# Altium integrated library Atmel AT6000.IntLib: 80 symbols (part 4 of 6)
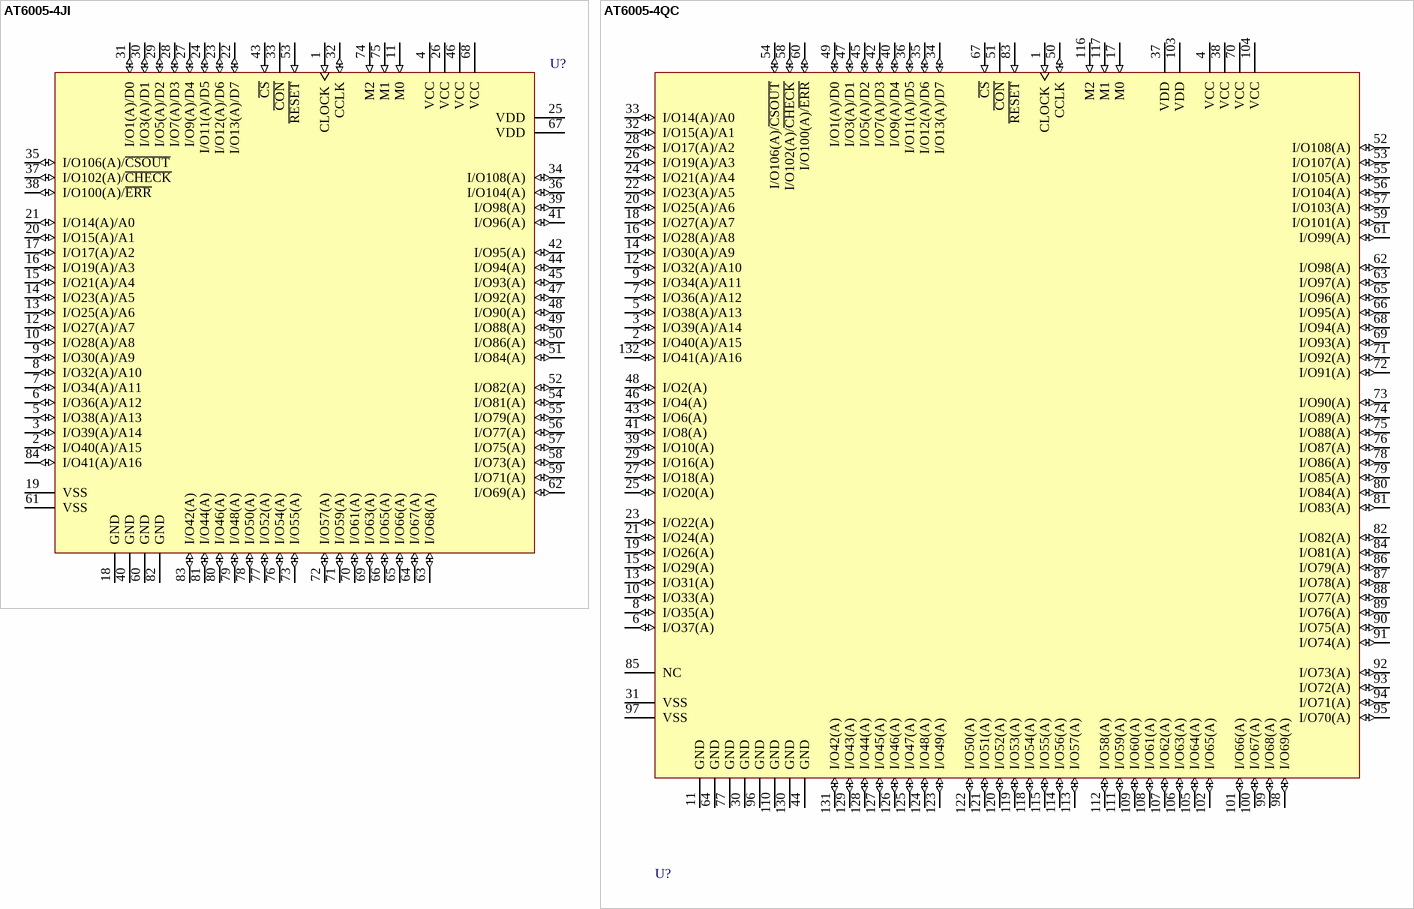
[diagram p53: symbols AT6005-4JI to AT6005-4QC]

## AT6005-4JI
designator U?
AT6005 5.0V FPGA, 64 User I/O Pins, 84-Lead PLCC, Speed Grade 4, Industrial Grade; Published: 24-Nov-2000; LatestRevisionDate: 13-Apr-2006; LatestRevisionNote: IPC-7351 Footprint Added.; DatasheetVersion: Rev. 0264F-10/99; PackageVersion: rev.B, Oct-2001; PackageReference: 84J; Publisher: Altium Limited; PackageDescription: 84J, 84-lead, Plastic J-leaded Chip Carrier (PLCC); Code_JEDEC: MS-018-AF; Code_IPC: PLCC-84; ComponentLink1Description: Manufacturer Link; ComponentLink1URL: http://www.atmel.com/products/FPGA/; ComponentLink2Description: Datasheet; ComponentLink2URL: http://www.atmel.com/dyn/resources/prod_documents/DOC0264.PDF
footprint 84J_N (Leaded Chip Carrier, 84-Leads, Body 29.3x29.3mm, Pitch 1.27mm, IPC Medium Density)
footprint 84J_L (Leaded Chip Carrier, 84-Leads, Body 29.3x29.3mm, Pitch 1.27mm, IPC High Density)
footprint 84J_M (Leaded Chip Carrier, 84-Leads, Body 29.3x29.3mm, Pitch 1.27mm, IPC Low Density)
3D model AT6005-84J (84J, 84-lead, Plastic J-leaded Chip Carrier (PLCC))
pins: 1 CLOCK (in), 2 I/O40(A)/A15 (io), 3 I/O39(A)/A14 (io), 4 VCC (power), 5 I/O38(A)/A13 (io), 6 I/O36(A)/A12 (io), 7 I/O34(A)/A11 (io), 8 I/O32(A)/A10 (io), 9 I/O30(A)/A9 (io), 10 I/O28(A)/A8 (io), 11 M0 (in), 12 I/O27(A)/A7 (io), 13 I/O25(A)/A6 (io), 14 I/O23(A)/A5 (io), 15 I/O21(A)/A4 (io), 16 I/O19(A)/A3 (io), 17 I/O17(A)/A2 (io), 18 GND (power), 19 VSS (power), 20 I/O15(A)/A1 (io), 21 I/O14(A)/A0 (io), 22 I/O13(A)/D7 (io), 23 I/O12(A)/D6 (io), 24 I/O11(A)/D5 (io), 25 VDD (power), 26 VCC (power), 27 I/O9(A)/D4 (io), 28 I/O7(A)/D3 (io), 29 I/O5(A)/D2 (io), 30 I/O3(A)/D1 (io), 31 I/O1(A)/D0 (io), 32 CCLK (io), 33 ~{CON} (oc), 34 I/O108(A) (io), 35 I/O106(A)/~{CSOUT} (io), 36 I/O104(A) (io), 37 I/O102(A)/~{CHECK} (io), 38 I/O100(A)/~{ERR} (io), 39 I/O98(A) (io), 40 GND (power), 41 I/O96(A) (io), 42 I/O95(A) (io), 43 ~{CS} (in), 44 I/O94(A) (io), 45 I/O93(A) (io), 46 VCC (power), 47 I/O92(A) (io), 48 I/O90(A) (io), 49 I/O88(A) (io), 50 I/O86(A) (io), 51 I/O84(A) (io), 52 I/O82(A) (io), 53 ~{RESET} (in), 54 I/O81(A) (io), 55 I/O79(A) (io), 56 I/O77(A) (io), 57 I/O75(A) (io), 58 I/O73(A) (io), 59 I/O71(A) (io), 60 GND (power), 61 VSS (power), 62 I/O69(A) (io), 63 I/O68(A) (io), 64 I/O67(A) (io), 65 I/O66(A) (io), 66 I/O65(A) (io), 67 VDD (power), 68 VCC (power), 69 I/O63(A) (io), 70 I/O61(A) (io), 71 I/O59(A) (io), 72 I/O57(A) (io), 73 I/O55(A) (io), 74 M2 (in), 75 M1 (in), 76 I/O54(A) (io), 77 I/O52(A) (io), 78 I/O50(A) (io), 79 I/O48(A) (io), 80 I/O46(A) (io), 81 I/O44(A) (io), 82 GND (power), 83 I/O42(A) (io), 84 I/O41(A)/A16 (io)

## AT6005-4QC
designator U?
AT6005 5.0V FPGA, 108 User I/O Pins, 132-Lead BQFP, Speed Grade 4, Commercial Grade; Published: 24-Nov-2000; LatestRevisionDate: 17-Dec-2003; LatestRevisionNote: Schematic layout rearranged; DatasheetVersion: Rev. 0264F-10/99; PackageVersion: rev.0555D, Nov-1999; PackageReference: 132Q; Publisher: Altium Limited; PackageDescription: Bumpered PQFP; 132 Leads; Pitch 0.635 mm;; ComponentLink1Description: Manufacturer Link; ComponentLink1URL: http://www.atmel.com/products/FPGA/; ComponentLink2Description: Datasheet; ComponentLink2URL: http://www.atmel.com/dyn/resources/prod_documents/DOC0264.PDF
footprint 132Q (Bumpered PQFP; 132 Leads; Pitch 0.635 mm;)
pins: 1 CLOCK (in), 2 I/O40(A)/A15 (io), 3 I/O39(A)/A14 (io), 4 VCC (power), 5 I/O38(A)/A13 (io), 6 I/O37(A) (io), 7 I/O36(A)/A12 (io), 8 I/O35(A) (io), 9 I/O34(A)/A11 (io), 10 I/O33(A) (io), 11 GND (power), 12 I/O32(A)/A10 (io), 13 I/O31(A) (io), 14 I/O30(A)/A9 (io), 15 I/O29(A) (io), 16 I/O28(A)/A8 (io), 17 M0 (in), 18 I/O27(A)/A7 (io), 19 I/O26(A) (io), 20 I/O25(A)/A6 (io), 21 I/O24(A) (io), 22 I/O23(A)/A5 (io), 23 I/O22(A) (io), 24 I/O21(A)/A4 (io), 25 I/O20(A) (io), 26 I/O19(A)/A3 (io), 27 I/O18(A) (io), 28 I/O17(A)/A2 (io), 29 I/O16(A) (io), 30 GND (power), 31 VSS (power), 32 I/O15(A)/A1 (io), 33 I/O14(A)/A0 (io), 34 I/O13(A)/D7 (io), 35 I/O12(A)/D6 (io), 36 I/O11(A)/D5 (io), 37 VDD (power), 38 VCC (power), 39 I/O10(A) (io), 40 I/O9(A)/D4 (io), 41 I/O8(A) (io), 42 I/O7(A)/D3 (io), 43 I/O6(A) (io), 44 GND (power), 45 I/O5(A)/D2 (io), 46 I/O4(A) (io), 47 I/O3(A)/D1 (io), 48 I/O2(A) (io), 49 I/O1(A)/D0 (io), 50 CCLK (io), 51 ~{CON} (oc), 52 I/O108(A) (io), 53 I/O107(A) (io), 54 I/O106(A)/~{CSOUT} (io), 55 I/O105(A) (io), 56 I/O104(A) (io), 57 I/O103(A) (io), 58 I/O102(A)/~{CHECK} (io), 59 I/O101(A) (io), 60 I/O100(A)/~{ERR} (io), 61 I/O99(A) (io), 62 I/O98(A) (io), 63 I/O97(A) (io), 64 GND (power), 65 I/O96(A) (io), 66 I/O95(A) (io), 67 ~{CS} (in), 68 I/O94(A) (io), 69 I/O93(A) (io), 70 VCC (power), 71 I/O92(A) (io), 72 I/O91(A) (io), 73 I/O90(A) (io), 74 I/O89(A) (io), 75 I/O88(A) (io), 76 I/O87(A) (io), 77 GND (power), 78 I/O86(A) (io), 79 I/O85(A) (io), 80 I/O84(A) (io), 81 I/O83(A) (io), 82 I/O82(A) (io), 83 ~{RESET} (in), 84 I/O81(A) (io), 85 NC, 86 I/O79(A) (io), 87 I/O78(A) (io), 88 I/O77(A) (io), 89 I/O76(A) (io), 90 I/O75(A) (io), 91 I/O74(A) (io), 92 I/O73(A) (io), 93 I/O72(A) (io), 94 I/O71(A) (io), 95 I/O70(A) (io), 96 GND (power), 97 VSS (power), 98 I/O69(A) (io), 99 I/O68(A) (io), 100 I/O67(A) (io), 101 I/O66(A) (io), 102 I/O65(A) (io), 103 VDD (power), 104 VCC (power), 105 I/O64(A) (io), 106 I/O63(A) (io), 107 I/O62(A) (io), 108 I/O61(A) (io), 109 I/O60(A) (io), 110 GND (power), 111 I/O59(A) (io), 112 I/O58(A) (io), 113 I/O57(A) (io), 114 I/O56(A) (io), 115 I/O55(A) (io), 116 M2 (in), 117 M1 (in), 118 I/O54(A) (io), 119 I/O53(A) (io), 120 I/O52(A) (io), 121 I/O51(A) (io), 122 I/O50(A) (io), 123 I/O49(A) (io), 124 I/O48(A) (io), 125 I/O47(A) (io), 126 I/O46(A) (io), 127 I/O45(A) (io), 128 I/O44(A) (io), 129 I/O43(A) (io), 130 GND (power), 131 I/O42(A) (io), 132 I/O41(A)/A16 (io)

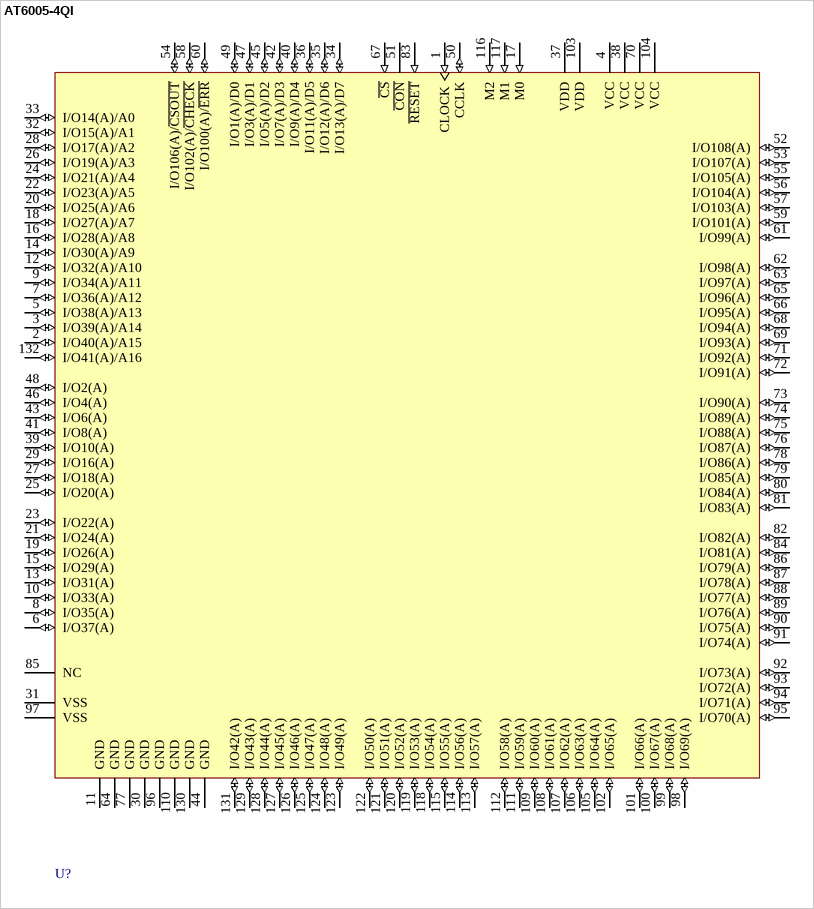
[diagram p24: symbol AT6005-4QI]

## AT6005-4QI
designator U?
AT6005 5.0V FPGA, 108 User I/O Pins, 132-Lead BQFP, Speed Grade 4, Industrial Grade; Published: 24-Nov-2000; LatestRevisionDate: 17-Dec-2003; LatestRevisionNote: Schematic layout rearranged; DatasheetVersion: Rev. 0264F-10/99; PackageVersion: rev.0555D, Nov-1999; PackageReference: 132Q; Publisher: Altium Limited; PackageDescription: Bumpered PQFP; 132 Leads; Pitch 0.635 mm;; ComponentLink1Description: Manufacturer Link; ComponentLink1URL: http://www.atmel.com/products/FPGA/; ComponentLink2Description: Datasheet; ComponentLink2URL: http://www.atmel.com/dyn/resources/prod_documents/DOC0264.PDF
footprint 132Q (Bumpered PQFP; 132 Leads; Pitch 0.635 mm;)
pins: 1 CLOCK (in), 2 I/O40(A)/A15 (io), 3 I/O39(A)/A14 (io), 4 VCC (power), 5 I/O38(A)/A13 (io), 6 I/O37(A) (io), 7 I/O36(A)/A12 (io), 8 I/O35(A) (io), 9 I/O34(A)/A11 (io), 10 I/O33(A) (io), 11 GND (power), 12 I/O32(A)/A10 (io), 13 I/O31(A) (io), 14 I/O30(A)/A9 (io), 15 I/O29(A) (io), 16 I/O28(A)/A8 (io), 17 M0 (in), 18 I/O27(A)/A7 (io), 19 I/O26(A) (io), 20 I/O25(A)/A6 (io), 21 I/O24(A) (io), 22 I/O23(A)/A5 (io), 23 I/O22(A) (io), 24 I/O21(A)/A4 (io), 25 I/O20(A) (io), 26 I/O19(A)/A3 (io), 27 I/O18(A) (io), 28 I/O17(A)/A2 (io), 29 I/O16(A) (io), 30 GND (power), 31 VSS (power), 32 I/O15(A)/A1 (io), 33 I/O14(A)/A0 (io), 34 I/O13(A)/D7 (io), 35 I/O12(A)/D6 (io), 36 I/O11(A)/D5 (io), 37 VDD (power), 38 VCC (power), 39 I/O10(A) (io), 40 I/O9(A)/D4 (io), 41 I/O8(A) (io), 42 I/O7(A)/D3 (io), 43 I/O6(A) (io), 44 GND (power), 45 I/O5(A)/D2 (io), 46 I/O4(A) (io), 47 I/O3(A)/D1 (io), 48 I/O2(A) (io), 49 I/O1(A)/D0 (io), 50 CCLK (io), 51 ~{CON} (oc), 52 I/O108(A) (io), 53 I/O107(A) (io), 54 I/O106(A)/~{CSOUT} (io), 55 I/O105(A) (io), 56 I/O104(A) (io), 57 I/O103(A) (io), 58 I/O102(A)/~{CHECK} (io), 59 I/O101(A) (io), 60 I/O100(A)/~{ERR} (io), 61 I/O99(A) (io), 62 I/O98(A) (io), 63 I/O97(A) (io), 64 GND (power), 65 I/O96(A) (io), 66 I/O95(A) (io), 67 ~{CS} (in), 68 I/O94(A) (io), 69 I/O93(A) (io), 70 VCC (power), 71 I/O92(A) (io), 72 I/O91(A) (io), 73 I/O90(A) (io), 74 I/O89(A) (io), 75 I/O88(A) (io), 76 I/O87(A) (io), 77 GND (power), 78 I/O86(A) (io), 79 I/O85(A) (io), 80 I/O84(A) (io), 81 I/O83(A) (io), 82 I/O82(A) (io), 83 ~{RESET} (in), 84 I/O81(A) (io), 85 NC, 86 I/O79(A) (io), 87 I/O78(A) (io), 88 I/O77(A) (io), 89 I/O76(A) (io), 90 I/O75(A) (io), 91 I/O74(A) (io), 92 I/O73(A) (io), 93 I/O72(A) (io), 94 I/O71(A) (io), 95 I/O70(A) (io), 96 GND (power), 97 VSS (power), 98 I/O69(A) (io), 99 I/O68(A) (io), 100 I/O67(A) (io), 101 I/O66(A) (io), 102 I/O65(A) (io), 103 VDD (power), 104 VCC (power), 105 I/O64(A) (io), 106 I/O63(A) (io), 107 I/O62(A) (io), 108 I/O61(A) (io), 109 I/O60(A) (io), 110 GND (power), 111 I/O59(A) (io), 112 I/O58(A) (io), 113 I/O57(A) (io), 114 I/O56(A) (io), 115 I/O55(A) (io), 116 M2 (in), 117 M1 (in), 118 I/O54(A) (io), 119 I/O53(A) (io), 120 I/O52(A) (io), 121 I/O51(A) (io), 122 I/O50(A) (io), 123 I/O49(A) (io), 124 I/O48(A) (io), 125 I/O47(A) (io), 126 I/O46(A) (io), 127 I/O45(A) (io), 128 I/O44(A) (io), 129 I/O43(A) (io), 130 GND (power), 131 I/O42(A) (io), 132 I/O41(A)/A16 (io)

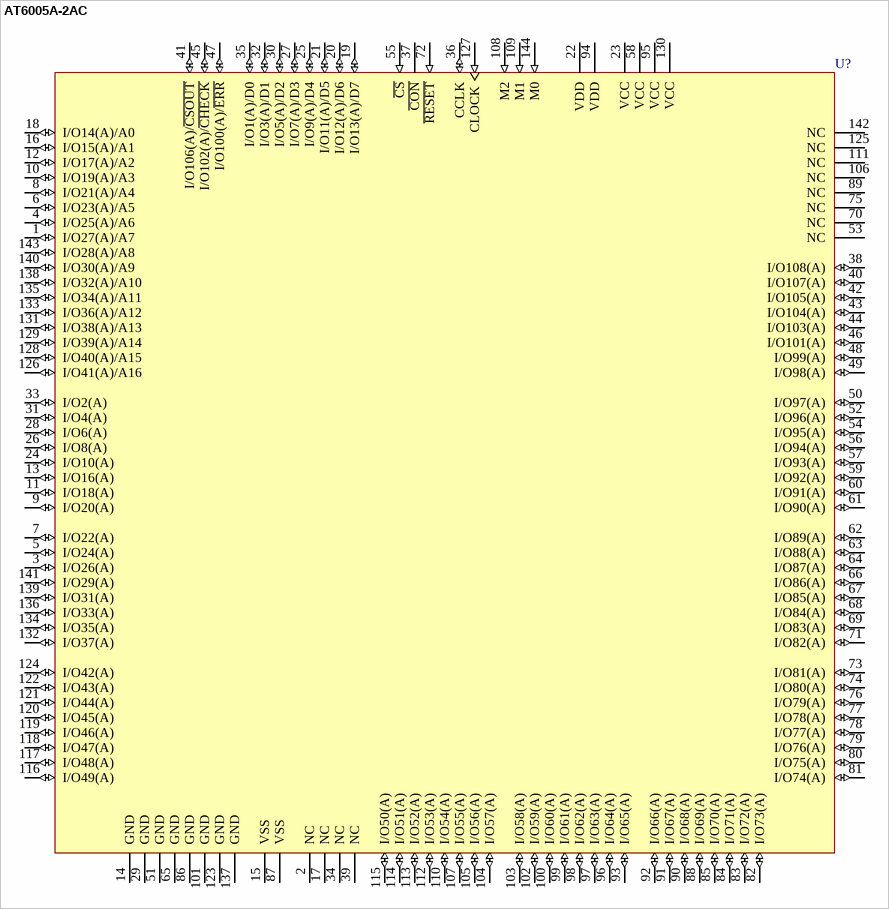
[diagram p25: symbol AT6005A-2AC]

## AT6005A-2AC
designator U?
AT6005 5.0V FPGA, 108 User I/O Pins, 144-Lead TQFP, Speed Grade 2, Commercial Grade; Published: 24-Nov-2000; LatestRevisionDate: 13-Apr-2006; LatestRevisionNote: IPC-7351 Footprint Added.; DatasheetVersion: Rev. 0264F-10/99; PackageVersion: rev.A, Nov-2001; PackageReference: 144L1; Publisher: Altium Limited; PackageDescription: 144-Pin Thin Quad Flat Pack 0.5 mm Pitch; Code_JEDEC: MS-026-BFB; ComponentLink1Description: Manufacturer Link; ComponentLink1URL: http://www.atmel.com/products/FPGA/; ComponentLink2Description: Datasheet; ComponentLink2URL: http://www.atmel.com/dyn/resources/prod_documents/DOC0264.PDF
footprint 144L1_N (Thin QFP, 144-Leads, Body 20x20mm, Pitch 0.5mm, IPC Medium Density)
footprint 144L1_L (Thin QFP, 144-Leads, Body 20x20mm, Pitch 0.5mm, IPC High Density)
footprint 144L1_M (Thin QFP, 144-Leads, Body 20x20mm, Pitch 0.5mm, IPC Low Density)
3D model AT6005A-144L1 (144-Pin Thin Quad Flat Pack 0.5 mm Pitch)
pins: 1 I/O27(A)/A7 (io), 2 NC, 3 I/O26(A) (io), 4 I/O25(A)/A6 (io), 5 I/O24(A) (io), 6 I/O23(A)/A5 (io), 7 I/O22(A) (io), 8 I/O21(A)/A4 (io), 9 I/O20(A) (io), 10 I/O19(A)/A3 (io), 11 I/O18(A) (io), 12 I/O17(A)/A2 (io), 13 I/O16(A) (io), 14 GND (power), 15 VSS (power) hidden to VSS, 16 I/O15(A)/A1 (io), 17 NC, 18 I/O14(A)/A0 (io), 19 I/O13(A)/D7 (io), 20 I/O12(A)/D6 (io), 21 I/O11(A)/D5 (io), 22 VDD (power), 23 VCC (power), 24 I/O10(A) (io), 25 I/O9(A)/D4 (io), 26 I/O8(A) (io), 27 I/O7(A)/D3 (io), 28 I/O6(A) (io), 29 GND (power), 30 I/O5(A)/D2 (io), 31 I/O4(A) (io), 32 I/O3(A)/D1 (io), 33 I/O2(A) (io), 34 NC, 35 I/O1(A)/D0 (io), 36 CCLK (io), 37 ~{CON} (oc), 38 I/O108(A) (io), 39 NC, 40 I/O107(A) (io), 41 I/O106(A)/~{CSOUT} (io), 42 I/O105(A) (io), 43 I/O104(A) (io), 44 I/O103(A) (io), 45 I/O102(A)/~{CHECK} (io), 46 I/O101(A) (io), 47 I/O100(A)/~{ERR} (io), 48 I/O99(A) (io), 49 I/O98(A) (io), 50 I/O97(A) (io), 51 GND (power), 52 I/O96(A) (io), 53 NC, 54 I/O95(A) (io), 55 ~{CS} (in), 56 I/O94(A) (io), 57 I/O93(A) (io), 58 VCC (power), 59 I/O92(A) (io), 60 I/O91(A) (io), 61 I/O90(A) (io), 62 I/O89(A) (io), 63 I/O88(A) (io), 64 I/O87(A) (io), 65 GND (power), 66 I/O86(A) (io), 67 I/O85(A) (io), 68 I/O84(A) (io), 69 I/O83(A) (io), 70 NC, 71 I/O82(A) (io), 72 ~{RESET} (in), 73 I/O81(A) (io), 74 I/O80(A) (io), 75 NC, 76 I/O79(A) (io), 77 I/O78(A) (io), 78 I/O77(A) (io), 79 I/O76(A) (io), 80 I/O75(A) (io), 81 I/O74(A) (io), 82 I/O73(A) (io), 83 I/O72(A) (io), 84 I/O71(A) (io), 85 I/O70(A) (io), 86 GND (power), 87 VSS (power) hidden to VSS, 88 I/O69(A) (io), 89 NC, 90 I/O68(A) (io), 91 I/O67(A) (io), 92 I/O66(A) (io), 93 I/O65(A) (io), 94 VDD (power), 95 VCC (power), 96 I/O64(A) (io), 97 I/O63(A) (io), 98 I/O62(A) (io), 99 I/O61(A) (io), 100 I/O60(A) (io), 101 GND (power), 102 I/O59(A) (io), 103 I/O58(A) (io), 104 I/O57(A) (io), 105 I/O56(A) (io), 106 NC, 107 I/O55(A) (io), 108 M2 (in), 109 M1 (in), 110 I/O54(A) (io), 111 NC, 112 I/O53(A) (io), 113 I/O52(A) (io), 114 I/O51(A) (io), 115 I/O50(A) (io), 116 I/O49(A) (io), 117 I/O48(A) (io), 118 I/O47(A) (io), 119 I/O46(A) (io), 120 I/O45(A) (io), 121 I/O44(A) (io), 122 I/O43(A) (io), 123 GND (power), 124 I/O42(A) (io), 125 NC, 126 I/O41(A)/A16 (io), 127 CLOCK (in), 128 I/O40(A)/A15 (io), 129 I/O39(A)/A14 (io), 130 VCC (power), 131 I/O38(A)/A13 (io), 132 I/O37(A) (io), 133 I/O36(A)/A12 (io), 134 I/O35(A) (io), 135 I/O34(A)/A11 (io), 136 I/O33(A) (io), 137 GND (power), 138 I/O32(A)/A10 (io), 139 I/O31(A) (io), 140 I/O30(A)/A9 (io), 141 I/O29(A) (io), 142 NC, 143 I/O28(A)/A8 (io), 144 M0 (in)

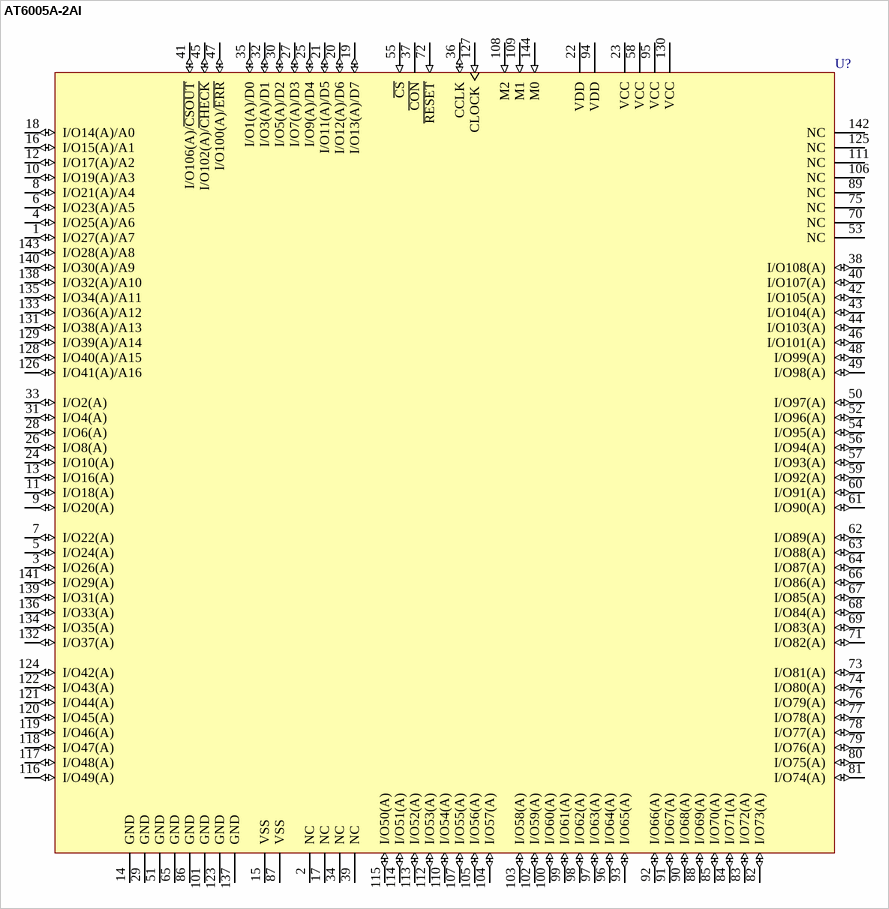
[diagram p26: symbol AT6005A-2AI]

## AT6005A-2AI
designator U?
AT6005 5.0V FPGA, 108 User I/O Pins, 144-Lead TQFP, Speed Grade 2, Industrial Grade; Published: 17-Dec-2003; LatestRevisionDate: 13-Apr-2006; LatestRevisionNote: IPC-7351 Footprint Added.; DatasheetVersion: Rev. 0264F-10/99; PackageVersion: rev.A, Nov-2001; PackageReference: 144L1; Publisher: Altium Limited; PackageDescription: 144-Pin Thin Quad Flat Pack 0.5 mm Pitch; Code_JEDEC: MS-026-BFB; ComponentLink1Description: Manufacturer Link; ComponentLink1URL: http://www.atmel.com/products/FPGA/; ComponentLink2Description: Datasheet; ComponentLink2URL: http://www.atmel.com/dyn/resources/prod_documents/DOC0264.PDF
footprint 144L1_N (Thin QFP, 144-Leads, Body 20x20mm, Pitch 0.5mm, IPC Medium Density)
footprint 144L1_L (Thin QFP, 144-Leads, Body 20x20mm, Pitch 0.5mm, IPC High Density)
footprint 144L1_M (Thin QFP, 144-Leads, Body 20x20mm, Pitch 0.5mm, IPC Low Density)
3D model AT6005A-144L1 (144-Pin Thin Quad Flat Pack 0.5 mm Pitch)
pins: 1 I/O27(A)/A7 (io), 2 NC, 3 I/O26(A) (io), 4 I/O25(A)/A6 (io), 5 I/O24(A) (io), 6 I/O23(A)/A5 (io), 7 I/O22(A) (io), 8 I/O21(A)/A4 (io), 9 I/O20(A) (io), 10 I/O19(A)/A3 (io), 11 I/O18(A) (io), 12 I/O17(A)/A2 (io), 13 I/O16(A) (io), 14 GND (power), 15 VSS (power) hidden to VSS, 16 I/O15(A)/A1 (io), 17 NC, 18 I/O14(A)/A0 (io), 19 I/O13(A)/D7 (io), 20 I/O12(A)/D6 (io), 21 I/O11(A)/D5 (io), 22 VDD (power), 23 VCC (power), 24 I/O10(A) (io), 25 I/O9(A)/D4 (io), 26 I/O8(A) (io), 27 I/O7(A)/D3 (io), 28 I/O6(A) (io), 29 GND (power), 30 I/O5(A)/D2 (io), 31 I/O4(A) (io), 32 I/O3(A)/D1 (io), 33 I/O2(A) (io), 34 NC, 35 I/O1(A)/D0 (io), 36 CCLK (io), 37 ~{CON} (oc), 38 I/O108(A) (io), 39 NC, 40 I/O107(A) (io), 41 I/O106(A)/~{CSOUT} (io), 42 I/O105(A) (io), 43 I/O104(A) (io), 44 I/O103(A) (io), 45 I/O102(A)/~{CHECK} (io), 46 I/O101(A) (io), 47 I/O100(A)/~{ERR} (io), 48 I/O99(A) (io), 49 I/O98(A) (io), 50 I/O97(A) (io), 51 GND (power), 52 I/O96(A) (io), 53 NC, 54 I/O95(A) (io), 55 ~{CS} (in), 56 I/O94(A) (io), 57 I/O93(A) (io), 58 VCC (power), 59 I/O92(A) (io), 60 I/O91(A) (io), 61 I/O90(A) (io), 62 I/O89(A) (io), 63 I/O88(A) (io), 64 I/O87(A) (io), 65 GND (power), 66 I/O86(A) (io), 67 I/O85(A) (io), 68 I/O84(A) (io), 69 I/O83(A) (io), 70 NC, 71 I/O82(A) (io), 72 ~{RESET} (in), 73 I/O81(A) (io), 74 I/O80(A) (io), 75 NC, 76 I/O79(A) (io), 77 I/O78(A) (io), 78 I/O77(A) (io), 79 I/O76(A) (io), 80 I/O75(A) (io), 81 I/O74(A) (io), 82 I/O73(A) (io), 83 I/O72(A) (io), 84 I/O71(A) (io), 85 I/O70(A) (io), 86 GND (power), 87 VSS (power) hidden to VSS, 88 I/O69(A) (io), 89 NC, 90 I/O68(A) (io), 91 I/O67(A) (io), 92 I/O66(A) (io), 93 I/O65(A) (io), 94 VDD (power), 95 VCC (power), 96 I/O64(A) (io), 97 I/O63(A) (io), 98 I/O62(A) (io), 99 I/O61(A) (io), 100 I/O60(A) (io), 101 GND (power), 102 I/O59(A) (io), 103 I/O58(A) (io), 104 I/O57(A) (io), 105 I/O56(A) (io), 106 NC, 107 I/O55(A) (io), 108 M2 (in), 109 M1 (in), 110 I/O54(A) (io), 111 NC, 112 I/O53(A) (io), 113 I/O52(A) (io), 114 I/O51(A) (io), 115 I/O50(A) (io), 116 I/O49(A) (io), 117 I/O48(A) (io), 118 I/O47(A) (io), 119 I/O46(A) (io), 120 I/O45(A) (io), 121 I/O44(A) (io), 122 I/O43(A) (io), 123 GND (power), 124 I/O42(A) (io), 125 NC, 126 I/O41(A)/A16 (io), 127 CLOCK (in), 128 I/O40(A)/A15 (io), 129 I/O39(A)/A14 (io), 130 VCC (power), 131 I/O38(A)/A13 (io), 132 I/O37(A) (io), 133 I/O36(A)/A12 (io), 134 I/O35(A) (io), 135 I/O34(A)/A11 (io), 136 I/O33(A) (io), 137 GND (power), 138 I/O32(A)/A10 (io), 139 I/O31(A) (io), 140 I/O30(A)/A9 (io), 141 I/O29(A) (io), 142 NC, 143 I/O28(A)/A8 (io), 144 M0 (in)

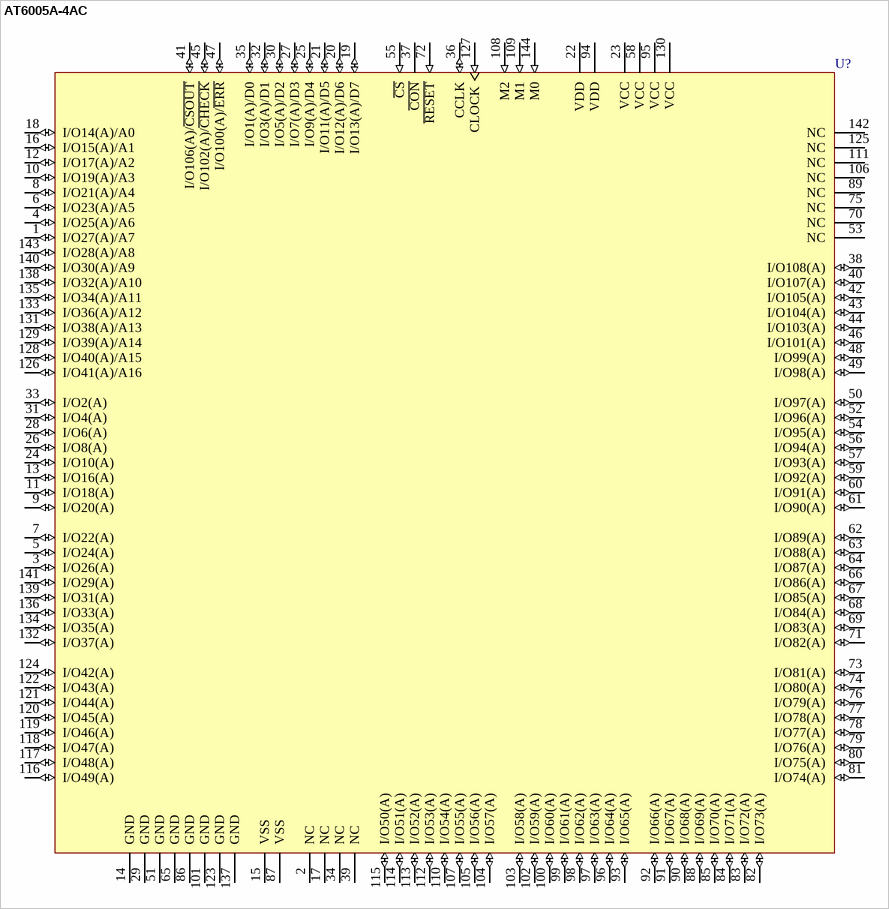
[diagram p27: symbol AT6005A-4AC]

## AT6005A-4AC
designator U?
AT6005 5.0V FPGA, 108 User I/O Pins, 144-Lead TQFP, Speed Grade 4, Commercial Grade; Published: 24-Nov-2000; LatestRevisionDate: 13-Apr-2006; LatestRevisionNote: IPC-7351 Footprint Added.; DatasheetVersion: Rev. 0264F-10/99; PackageVersion: rev.A, Nov-2001; PackageReference: 144L1; Publisher: Altium Limited; PackageDescription: 144-Pin Thin Quad Flat Pack 0.5 mm Pitch; Code_JEDEC: MS-026-BFB; ComponentLink1Description: Manufacturer Link; ComponentLink1URL: http://www.atmel.com/products/FPGA/; ComponentLink2Description: Datasheet; ComponentLink2URL: http://www.atmel.com/dyn/resources/prod_documents/DOC0264.PDF
footprint 144L1_N (Thin QFP, 144-Leads, Body 20x20mm, Pitch 0.5mm, IPC Medium Density)
footprint 144L1_L (Thin QFP, 144-Leads, Body 20x20mm, Pitch 0.5mm, IPC High Density)
footprint 144L1_M (Thin QFP, 144-Leads, Body 20x20mm, Pitch 0.5mm, IPC Low Density)
3D model AT6005A-144L1 (144-Pin Thin Quad Flat Pack 0.5 mm Pitch)
pins: 1 I/O27(A)/A7 (io), 2 NC, 3 I/O26(A) (io), 4 I/O25(A)/A6 (io), 5 I/O24(A) (io), 6 I/O23(A)/A5 (io), 7 I/O22(A) (io), 8 I/O21(A)/A4 (io), 9 I/O20(A) (io), 10 I/O19(A)/A3 (io), 11 I/O18(A) (io), 12 I/O17(A)/A2 (io), 13 I/O16(A) (io), 14 GND (power), 15 VSS (power) hidden to VSS, 16 I/O15(A)/A1 (io), 17 NC, 18 I/O14(A)/A0 (io), 19 I/O13(A)/D7 (io), 20 I/O12(A)/D6 (io), 21 I/O11(A)/D5 (io), 22 VDD (power), 23 VCC (power), 24 I/O10(A) (io), 25 I/O9(A)/D4 (io), 26 I/O8(A) (io), 27 I/O7(A)/D3 (io), 28 I/O6(A) (io), 29 GND (power), 30 I/O5(A)/D2 (io), 31 I/O4(A) (io), 32 I/O3(A)/D1 (io), 33 I/O2(A) (io), 34 NC, 35 I/O1(A)/D0 (io), 36 CCLK (io), 37 ~{CON} (oc), 38 I/O108(A) (io), 39 NC, 40 I/O107(A) (io), 41 I/O106(A)/~{CSOUT} (io), 42 I/O105(A) (io), 43 I/O104(A) (io), 44 I/O103(A) (io), 45 I/O102(A)/~{CHECK} (io), 46 I/O101(A) (io), 47 I/O100(A)/~{ERR} (io), 48 I/O99(A) (io), 49 I/O98(A) (io), 50 I/O97(A) (io), 51 GND (power), 52 I/O96(A) (io), 53 NC, 54 I/O95(A) (io), 55 ~{CS} (in), 56 I/O94(A) (io), 57 I/O93(A) (io), 58 VCC (power), 59 I/O92(A) (io), 60 I/O91(A) (io), 61 I/O90(A) (io), 62 I/O89(A) (io), 63 I/O88(A) (io), 64 I/O87(A) (io), 65 GND (power), 66 I/O86(A) (io), 67 I/O85(A) (io), 68 I/O84(A) (io), 69 I/O83(A) (io), 70 NC, 71 I/O82(A) (io), 72 ~{RESET} (in), 73 I/O81(A) (io), 74 I/O80(A) (io), 75 NC, 76 I/O79(A) (io), 77 I/O78(A) (io), 78 I/O77(A) (io), 79 I/O76(A) (io), 80 I/O75(A) (io), 81 I/O74(A) (io), 82 I/O73(A) (io), 83 I/O72(A) (io), 84 I/O71(A) (io), 85 I/O70(A) (io), 86 GND (power), 87 VSS (power) hidden to VSS, 88 I/O69(A) (io), 89 NC, 90 I/O68(A) (io), 91 I/O67(A) (io), 92 I/O66(A) (io), 93 I/O65(A) (io), 94 VDD (power), 95 VCC (power), 96 I/O64(A) (io), 97 I/O63(A) (io), 98 I/O62(A) (io), 99 I/O61(A) (io), 100 I/O60(A) (io), 101 GND (power), 102 I/O59(A) (io), 103 I/O58(A) (io), 104 I/O57(A) (io), 105 I/O56(A) (io), 106 NC, 107 I/O55(A) (io), 108 M2 (in), 109 M1 (in), 110 I/O54(A) (io), 111 NC, 112 I/O53(A) (io), 113 I/O52(A) (io), 114 I/O51(A) (io), 115 I/O50(A) (io), 116 I/O49(A) (io), 117 I/O48(A) (io), 118 I/O47(A) (io), 119 I/O46(A) (io), 120 I/O45(A) (io), 121 I/O44(A) (io), 122 I/O43(A) (io), 123 GND (power), 124 I/O42(A) (io), 125 NC, 126 I/O41(A)/A16 (io), 127 CLOCK (in), 128 I/O40(A)/A15 (io), 129 I/O39(A)/A14 (io), 130 VCC (power), 131 I/O38(A)/A13 (io), 132 I/O37(A) (io), 133 I/O36(A)/A12 (io), 134 I/O35(A) (io), 135 I/O34(A)/A11 (io), 136 I/O33(A) (io), 137 GND (power), 138 I/O32(A)/A10 (io), 139 I/O31(A) (io), 140 I/O30(A)/A9 (io), 141 I/O29(A) (io), 142 NC, 143 I/O28(A)/A8 (io), 144 M0 (in)

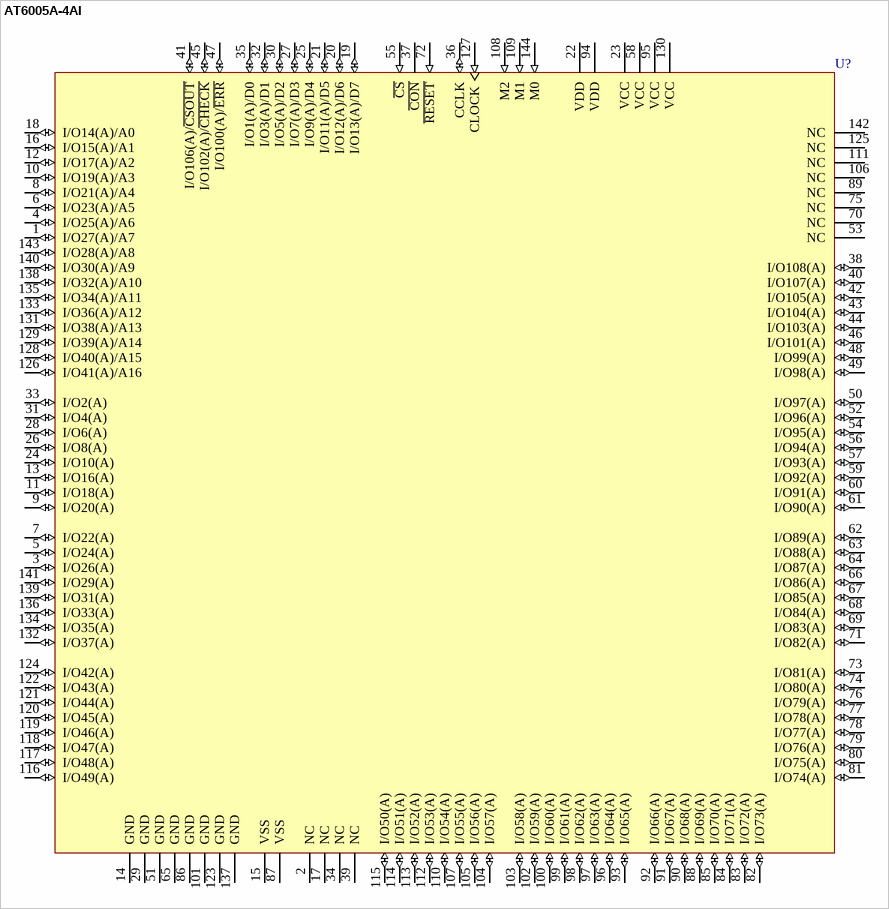
[diagram p28: symbol AT6005A-4AI]

## AT6005A-4AI
designator U?
AT6005 5.0V FPGA, 108 User I/O Pins, 144-Lead TQFP, Speed Grade 4, Industrial Grade; Published: 24-Nov-2000; LatestRevisionDate: 13-Apr-2006; LatestRevisionNote: IPC-7351 Footprint Added.; DatasheetVersion: Rev. 0264F-10/99; PackageVersion: rev.A, Nov-2001; PackageReference: 144L1; Publisher: Altium Limited; PackageDescription: 144-Pin Thin Quad Flat Pack 0.5 mm Pitch; Code_JEDEC: MS-026-BFB; ComponentLink1Description: Manufacturer Link; ComponentLink1URL: http://www.atmel.com/products/FPGA/; ComponentLink2Description: Datasheet; ComponentLink2URL: http://www.atmel.com/dyn/resources/prod_documents/DOC0264.PDF
footprint 144L1_N (Thin QFP, 144-Leads, Body 20x20mm, Pitch 0.5mm, IPC Medium Density)
footprint 144L1_L (Thin QFP, 144-Leads, Body 20x20mm, Pitch 0.5mm, IPC High Density)
footprint 144L1_M (Thin QFP, 144-Leads, Body 20x20mm, Pitch 0.5mm, IPC Low Density)
3D model AT6005A-144L1 (144-Pin Thin Quad Flat Pack 0.5 mm Pitch)
pins: 1 I/O27(A)/A7 (io), 2 NC, 3 I/O26(A) (io), 4 I/O25(A)/A6 (io), 5 I/O24(A) (io), 6 I/O23(A)/A5 (io), 7 I/O22(A) (io), 8 I/O21(A)/A4 (io), 9 I/O20(A) (io), 10 I/O19(A)/A3 (io), 11 I/O18(A) (io), 12 I/O17(A)/A2 (io), 13 I/O16(A) (io), 14 GND (power), 15 VSS (power) hidden to VSS, 16 I/O15(A)/A1 (io), 17 NC, 18 I/O14(A)/A0 (io), 19 I/O13(A)/D7 (io), 20 I/O12(A)/D6 (io), 21 I/O11(A)/D5 (io), 22 VDD (power), 23 VCC (power), 24 I/O10(A) (io), 25 I/O9(A)/D4 (io), 26 I/O8(A) (io), 27 I/O7(A)/D3 (io), 28 I/O6(A) (io), 29 GND (power), 30 I/O5(A)/D2 (io), 31 I/O4(A) (io), 32 I/O3(A)/D1 (io), 33 I/O2(A) (io), 34 NC, 35 I/O1(A)/D0 (io), 36 CCLK (io), 37 ~{CON} (oc), 38 I/O108(A) (io), 39 NC, 40 I/O107(A) (io), 41 I/O106(A)/~{CSOUT} (io), 42 I/O105(A) (io), 43 I/O104(A) (io), 44 I/O103(A) (io), 45 I/O102(A)/~{CHECK} (io), 46 I/O101(A) (io), 47 I/O100(A)/~{ERR} (io), 48 I/O99(A) (io), 49 I/O98(A) (io), 50 I/O97(A) (io), 51 GND (power), 52 I/O96(A) (io), 53 NC, 54 I/O95(A) (io), 55 ~{CS} (in), 56 I/O94(A) (io), 57 I/O93(A) (io), 58 VCC (power), 59 I/O92(A) (io), 60 I/O91(A) (io), 61 I/O90(A) (io), 62 I/O89(A) (io), 63 I/O88(A) (io), 64 I/O87(A) (io), 65 GND (power), 66 I/O86(A) (io), 67 I/O85(A) (io), 68 I/O84(A) (io), 69 I/O83(A) (io), 70 NC, 71 I/O82(A) (io), 72 ~{RESET} (in), 73 I/O81(A) (io), 74 I/O80(A) (io), 75 NC, 76 I/O79(A) (io), 77 I/O78(A) (io), 78 I/O77(A) (io), 79 I/O76(A) (io), 80 I/O75(A) (io), 81 I/O74(A) (io), 82 I/O73(A) (io), 83 I/O72(A) (io), 84 I/O71(A) (io), 85 I/O70(A) (io), 86 GND (power), 87 VSS (power) hidden to VSS, 88 I/O69(A) (io), 89 NC, 90 I/O68(A) (io), 91 I/O67(A) (io), 92 I/O66(A) (io), 93 I/O65(A) (io), 94 VDD (power), 95 VCC (power), 96 I/O64(A) (io), 97 I/O63(A) (io), 98 I/O62(A) (io), 99 I/O61(A) (io), 100 I/O60(A) (io), 101 GND (power), 102 I/O59(A) (io), 103 I/O58(A) (io), 104 I/O57(A) (io), 105 I/O56(A) (io), 106 NC, 107 I/O55(A) (io), 108 M2 (in), 109 M1 (in), 110 I/O54(A) (io), 111 NC, 112 I/O53(A) (io), 113 I/O52(A) (io), 114 I/O51(A) (io), 115 I/O50(A) (io), 116 I/O49(A) (io), 117 I/O48(A) (io), 118 I/O47(A) (io), 119 I/O46(A) (io), 120 I/O45(A) (io), 121 I/O44(A) (io), 122 I/O43(A) (io), 123 GND (power), 124 I/O42(A) (io), 125 NC, 126 I/O41(A)/A16 (io), 127 CLOCK (in), 128 I/O40(A)/A15 (io), 129 I/O39(A)/A14 (io), 130 VCC (power), 131 I/O38(A)/A13 (io), 132 I/O37(A) (io), 133 I/O36(A)/A12 (io), 134 I/O35(A) (io), 135 I/O34(A)/A11 (io), 136 I/O33(A) (io), 137 GND (power), 138 I/O32(A)/A10 (io), 139 I/O31(A) (io), 140 I/O30(A)/A9 (io), 141 I/O29(A) (io), 142 NC, 143 I/O28(A)/A8 (io), 144 M0 (in)

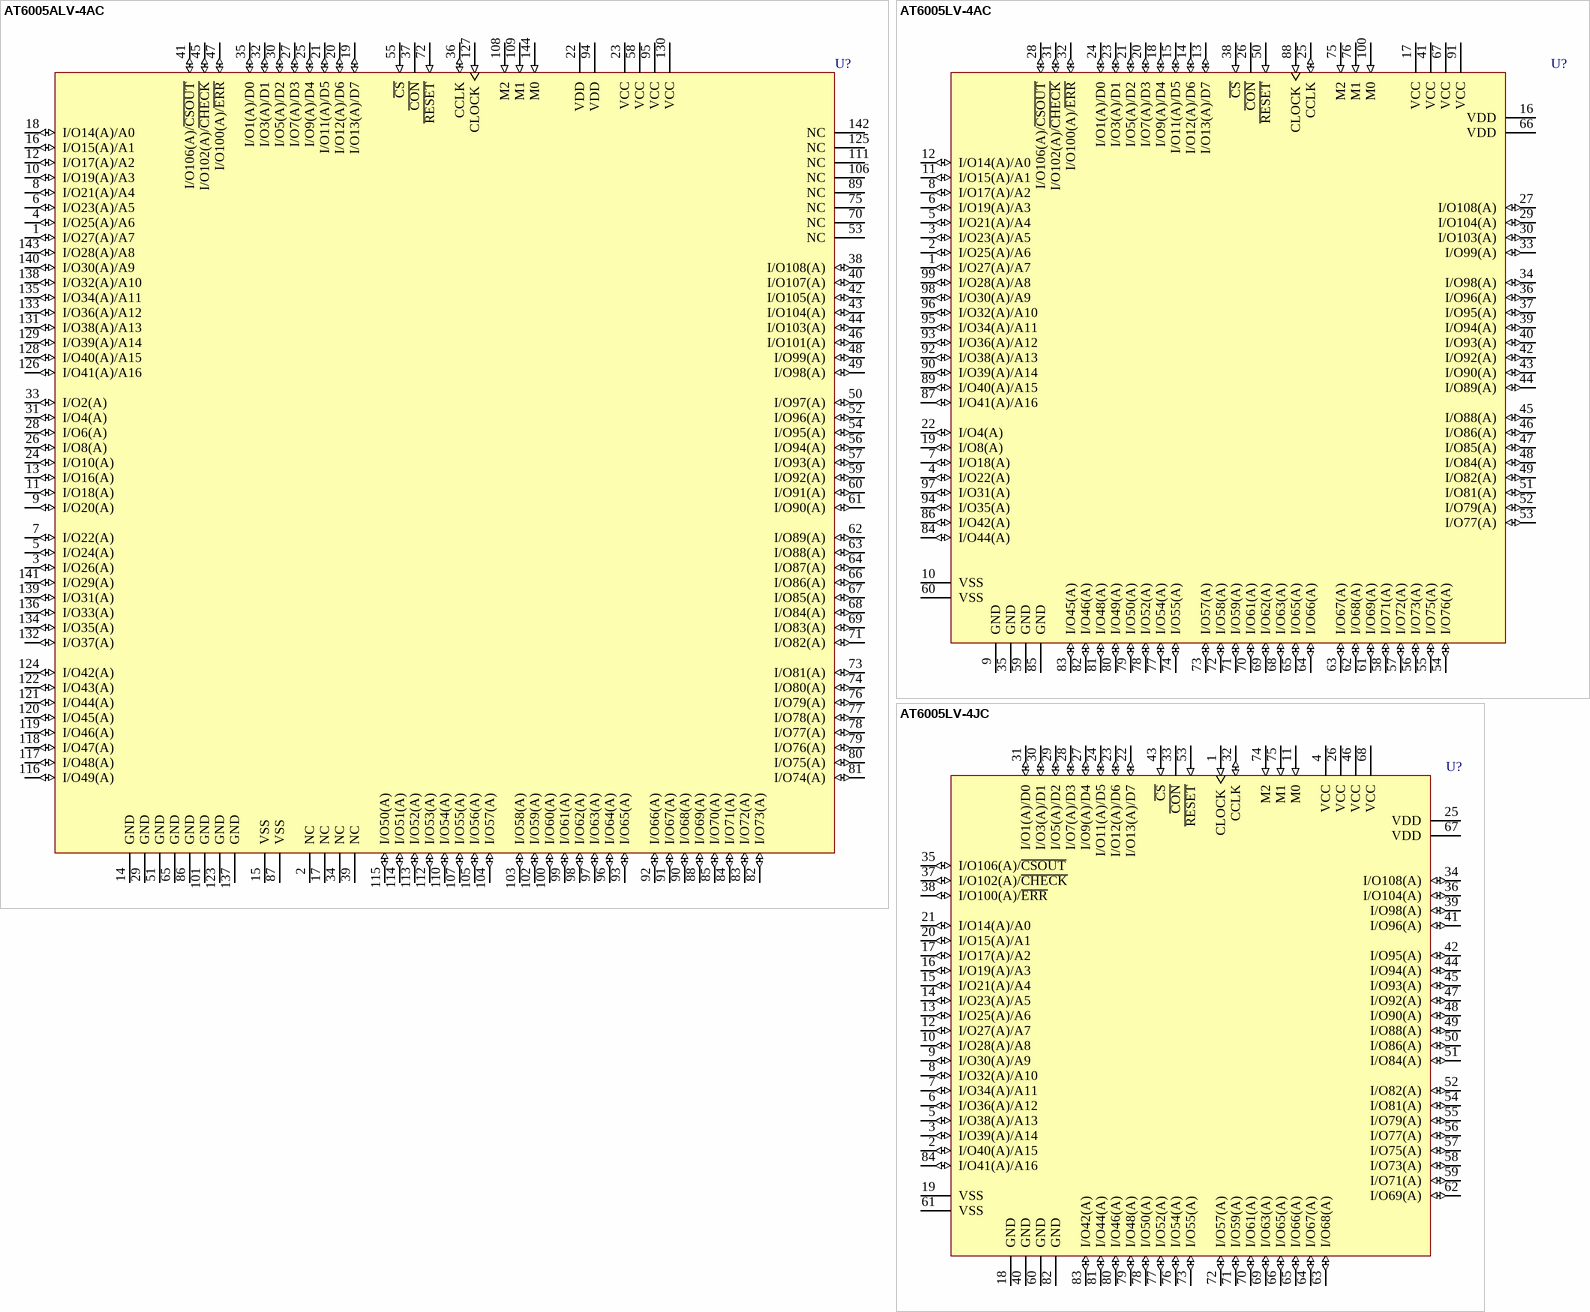
[diagram p29: symbols AT6005ALV-4AC to AT6005LV-4JC]

## AT6005ALV-4AC
designator U?
AT6005 3.3V FPGA, 108 User I/O Pins, 144-Lead TQFP, Speed Grade 4, Commercial Grade; Published: 17-Dec-2003; LatestRevisionDate: 13-Apr-2006; LatestRevisionNote: IPC-7351 Footprint Added.; DatasheetVersion: Rev. 0264F-10/99; PackageVersion: rev.A, Nov-2001; PackageReference: 144L1; Publisher: Altium Limited; PackageDescription: 144-Pin Thin Quad Flat Pack 0.5 mm Pitch; Code_JEDEC: MS-026-BFB; ComponentLink1Description: Manufacturer Link; ComponentLink1URL: http://www.atmel.com/products/FPGA/; ComponentLink2Description: Datasheet; ComponentLink2URL: http://www.atmel.com/dyn/resources/prod_documents/DOC0264.PDF
footprint 144L1_N (Thin QFP, 144-Leads, Body 20x20mm, Pitch 0.5mm, IPC Medium Density)
footprint 144L1_L (Thin QFP, 144-Leads, Body 20x20mm, Pitch 0.5mm, IPC High Density)
footprint 144L1_M (Thin QFP, 144-Leads, Body 20x20mm, Pitch 0.5mm, IPC Low Density)
3D model AT6005ALV-144L1 (144-Pin Thin Quad Flat Pack 0.5 mm Pitch)
pins: 1 I/O27(A)/A7 (io), 2 NC, 3 I/O26(A) (io), 4 I/O25(A)/A6 (io), 5 I/O24(A) (io), 6 I/O23(A)/A5 (io), 7 I/O22(A) (io), 8 I/O21(A)/A4 (io), 9 I/O20(A) (io), 10 I/O19(A)/A3 (io), 11 I/O18(A) (io), 12 I/O17(A)/A2 (io), 13 I/O16(A) (io), 14 GND (power), 15 VSS (power) hidden to VSS, 16 I/O15(A)/A1 (io), 17 NC, 18 I/O14(A)/A0 (io), 19 I/O13(A)/D7 (io), 20 I/O12(A)/D6 (io), 21 I/O11(A)/D5 (io), 22 VDD (power), 23 VCC (power), 24 I/O10(A) (io), 25 I/O9(A)/D4 (io), 26 I/O8(A) (io), 27 I/O7(A)/D3 (io), 28 I/O6(A) (io), 29 GND (power), 30 I/O5(A)/D2 (io), 31 I/O4(A) (io), 32 I/O3(A)/D1 (io), 33 I/O2(A) (io), 34 NC, 35 I/O1(A)/D0 (io), 36 CCLK (io), 37 ~{CON} (oc), 38 I/O108(A) (io), 39 NC, 40 I/O107(A) (io), 41 I/O106(A)/~{CSOUT} (io), 42 I/O105(A) (io), 43 I/O104(A) (io), 44 I/O103(A) (io), 45 I/O102(A)/~{CHECK} (io), 46 I/O101(A) (io), 47 I/O100(A)/~{ERR} (io), 48 I/O99(A) (io), 49 I/O98(A) (io), 50 I/O97(A) (io), 51 GND (power), 52 I/O96(A) (io), 53 NC, 54 I/O95(A) (io), 55 ~{CS} (in), 56 I/O94(A) (io), 57 I/O93(A) (io), 58 VCC (power), 59 I/O92(A) (io), 60 I/O91(A) (io), 61 I/O90(A) (io), 62 I/O89(A) (io), 63 I/O88(A) (io), 64 I/O87(A) (io), 65 GND (power), 66 I/O86(A) (io), 67 I/O85(A) (io), 68 I/O84(A) (io), 69 I/O83(A) (io), 70 NC, 71 I/O82(A) (io), 72 ~{RESET} (in), 73 I/O81(A) (io), 74 I/O80(A) (io), 75 NC, 76 I/O79(A) (io), 77 I/O78(A) (io), 78 I/O77(A) (io), 79 I/O76(A) (io), 80 I/O75(A) (io), 81 I/O74(A) (io), 82 I/O73(A) (io), 83 I/O72(A) (io), 84 I/O71(A) (io), 85 I/O70(A) (io), 86 GND (power), 87 VSS (power) hidden to VSS, 88 I/O69(A) (io), 89 NC, 90 I/O68(A) (io), 91 I/O67(A) (io), 92 I/O66(A) (io), 93 I/O65(A) (io), 94 VDD (power), 95 VCC (power), 96 I/O64(A) (io), 97 I/O63(A) (io), 98 I/O62(A) (io), 99 I/O61(A) (io), 100 I/O60(A) (io), 101 GND (power), 102 I/O59(A) (io), 103 I/O58(A) (io), 104 I/O57(A) (io), 105 I/O56(A) (io), 106 NC, 107 I/O55(A) (io), 108 M2 (in), 109 M1 (in), 110 I/O54(A) (io), 111 NC, 112 I/O53(A) (io), 113 I/O52(A) (io), 114 I/O51(A) (io), 115 I/O50(A) (io), 116 I/O49(A) (io), 117 I/O48(A) (io), 118 I/O47(A) (io), 119 I/O46(A) (io), 120 I/O45(A) (io), 121 I/O44(A) (io), 122 I/O43(A) (io), 123 GND (power), 124 I/O42(A) (io), 125 NC, 126 I/O41(A)/A16 (io), 127 CLOCK (in), 128 I/O40(A)/A15 (io), 129 I/O39(A)/A14 (io), 130 VCC (power), 131 I/O38(A)/A13 (io), 132 I/O37(A) (io), 133 I/O36(A)/A12 (io), 134 I/O35(A) (io), 135 I/O34(A)/A11 (io), 136 I/O33(A) (io), 137 GND (power), 138 I/O32(A)/A10 (io), 139 I/O31(A) (io), 140 I/O30(A)/A9 (io), 141 I/O29(A) (io), 142 NC, 143 I/O28(A)/A8 (io), 144 M0 (in)

## AT6005LV-4AC
designator U?
AT6005 3.3V FPGA, 80 User I/O Pins, 100-Lead VQFP, Speed Grade 4, Commercial Grade; Published: 17-Dec-2003; LatestRevisionDate: 13-Apr-2006; LatestRevisionNote: IPC-7351 Footprint Added.; DatasheetVersion: Rev. 0264F-10/99; PackageVersion: rev.A, Nov-2001; PackageReference: 100T1; Publisher: Altium Limited; PackageDescription: 100-Pin Thin Quad Flat Pack 0.5 mm Pitch; Code_JEDEC: MS-026-AED; ComponentLink1Description: Manufacturer Link; ComponentLink1URL: http://www.atmel.com/products/FPGA/; ComponentLink2Description: Datasheet; ComponentLink2URL: http://www.atmel.com/dyn/resources/prod_documents/DOC0264.PDF
footprint 100T1_N (Thin QFP, 100-Leads, Body 14x14mm, Pitch 0.5mm, IPC Medium Density)
footprint 100T1_L (Thin QFP, 100-Leads, Body 14x14mm, Pitch 0.5mm, IPC High Density)
footprint 100T1_M (Thin QFP, 100-Leads, Body 14x14mm, Pitch 0.5mm, IPC Low Density)
3D model AT6005LV-100T1 (100-Pin Thin Quad Flat Pack 0.5 mm Pitch)
pins: 1 I/O27(A)/A7 (io), 2 I/O25(A)/A6 (io), 3 I/O23(A)/A5 (io), 4 I/O22(A) (io), 5 I/O21(A)/A4 (io), 6 I/O19(A)/A3 (io), 7 I/O18(A) (io), 8 I/O17(A)/A2 (io), 9 GND (power), 10 VSS (power), 11 I/O15(A)/A1 (io), 12 I/O14(A)/A0 (io), 13 I/O13(A)/D7 (io), 14 I/O12(A)/D6 (io), 15 I/O11(A)/D5 (io), 16 VDD (power), 17 VCC (power), 18 I/O9(A)/D4 (io), 19 I/O8(A) (io), 20 I/O7(A)/D3 (io), 21 I/O5(A)/D2 (io), 22 I/O4(A) (io), 23 I/O3(A)/D1 (io), 24 I/O1(A)/D0 (io), 25 CCLK (io), 26 ~{CON} (oc), 27 I/O108(A) (io), 28 I/O106(A)/~{CSOUT} (io), 29 I/O104(A) (io), 30 I/O103(A) (io), 31 I/O102(A)/~{CHECK} (io), 32 I/O100(A)/~{ERR} (io), 33 I/O99(A) (io), 34 I/O98(A) (io), 35 GND (power), 36 I/O96(A) (io), 37 I/O95(A) (io), 38 ~{CS} (in), 39 I/O94(A) (io), 40 I/O93(A) (io), 41 VCC (power), 42 I/O92(A) (io), 43 I/O90(A) (io), 44 I/O89(A) (io), 45 I/O88(A) (io), 46 I/O86(A) (io), 47 I/O85(A) (io), 48 I/O84(A) (io), 49 I/O82(A) (io), 50 ~{RESET} (in), 51 I/O81(A) (io), 52 I/O79(A) (io), 53 I/O77(A) (io), 54 I/O76(A) (io), 55 I/O75(A) (io), 56 I/O73(A) (io), 57 I/O72(A) (io), 58 I/O71(A) (io), 59 GND (power), 60 VSS (power), 61 I/O69(A) (io), 62 I/O68(A) (io), 63 I/O67(A) (io), 64 I/O66(A) (io), 65 I/O65(A) (io), 66 VDD (power), 67 VCC (power), 68 I/O63(A) (io), 69 I/O62(A) (io), 70 I/O61(A) (io), 71 I/O59(A) (io), 72 I/O58(A) (io), 73 I/O57(A) (io), 74 I/O55(A) (io), 75 M2 (in), 76 M1 (in), 77 I/O54(A) (io), 78 I/O52(A) (io), 79 I/O50(A) (io), 80 I/O49(A) (io), 81 I/O48(A) (io), 82 I/O46(A) (io), 83 I/O45(A) (io), 84 I/O44(A) (io), 85 GND (power), 86 I/O42(A) (io), 87 I/O41(A)/A16 (io), 88 CLOCK (in), 89 I/O40(A)/A15 (io), 90 I/O39(A)/A14 (io), 91 VCC (power), 92 I/O38(A)/A13 (io), 93 I/O36(A)/A12 (io), 94 I/O35(A) (io), 95 I/O34(A)/A11 (io), 96 I/O32(A)/A10 (io), 97 I/O31(A) (io), 98 I/O30(A)/A9 (io), 99 I/O28(A)/A8 (io), 100 M0 (in)

## AT6005LV-4JC
designator U?
AT6005 3.3V FPGA, 64 User I/O Pins, 84-Lead PLCC, Speed Grade 4, Commercial Grade; Published: 17-Dec-2003; LatestRevisionDate: 13-Apr-2006; LatestRevisionNote: IPC-7351 Footprint Added.; DatasheetVersion: Rev. 0264F-10/99; PackageVersion: rev.B, Oct-2001; PackageReference: 84J; Publisher: Altium Limited; PackageDescription: 84J, 84-lead, Plastic J-leaded Chip Carrier (PLCC); Code_JEDEC: MS-018-AF; Code_IPC: PLCC-84; ComponentLink1Description: Manufacturer Link; ComponentLink1URL: http://www.atmel.com/products/FPGA/; ComponentLink2Description: Datasheet; ComponentLink2URL: http://www.atmel.com/dyn/resources/prod_documents/DOC0264.PDF
footprint 84J_N (Leaded Chip Carrier, 84-Leads, Body 29.3x29.3mm, Pitch 1.27mm, IPC Medium Density)
footprint 84J_L (Leaded Chip Carrier, 84-Leads, Body 29.3x29.3mm, Pitch 1.27mm, IPC High Density)
footprint 84J_M (Leaded Chip Carrier, 84-Leads, Body 29.3x29.3mm, Pitch 1.27mm, IPC Low Density)
3D model AT6005LV-84J (84J, 84-lead, Plastic J-leaded Chip Carrier (PLCC))
pins: 1 CLOCK (in), 2 I/O40(A)/A15 (io), 3 I/O39(A)/A14 (io), 4 VCC (power), 5 I/O38(A)/A13 (io), 6 I/O36(A)/A12 (io), 7 I/O34(A)/A11 (io), 8 I/O32(A)/A10 (io), 9 I/O30(A)/A9 (io), 10 I/O28(A)/A8 (io), 11 M0 (in), 12 I/O27(A)/A7 (io), 13 I/O25(A)/A6 (io), 14 I/O23(A)/A5 (io), 15 I/O21(A)/A4 (io), 16 I/O19(A)/A3 (io), 17 I/O17(A)/A2 (io), 18 GND (power), 19 VSS (power), 20 I/O15(A)/A1 (io), 21 I/O14(A)/A0 (io), 22 I/O13(A)/D7 (io), 23 I/O12(A)/D6 (io), 24 I/O11(A)/D5 (io), 25 VDD (power), 26 VCC (power), 27 I/O9(A)/D4 (io), 28 I/O7(A)/D3 (io), 29 I/O5(A)/D2 (io), 30 I/O3(A)/D1 (io), 31 I/O1(A)/D0 (io), 32 CCLK (io), 33 ~{CON} (oc), 34 I/O108(A) (io), 35 I/O106(A)/~{CSOUT} (io), 36 I/O104(A) (io), 37 I/O102(A)/~{CHECK} (io), 38 I/O100(A)/~{ERR} (io), 39 I/O98(A) (io), 40 GND (power), 41 I/O96(A) (io), 42 I/O95(A) (io), 43 ~{CS} (in), 44 I/O94(A) (io), 45 I/O93(A) (io), 46 VCC (power), 47 I/O92(A) (io), 48 I/O90(A) (io), 49 I/O88(A) (io), 50 I/O86(A) (io), 51 I/O84(A) (io), 52 I/O82(A) (io), 53 ~{RESET} (in), 54 I/O81(A) (io), 55 I/O79(A) (io), 56 I/O77(A) (io), 57 I/O75(A) (io), 58 I/O73(A) (io), 59 I/O71(A) (io), 60 GND (power), 61 VSS (power), 62 I/O69(A) (io), 63 I/O68(A) (io), 64 I/O67(A) (io), 65 I/O66(A) (io), 66 I/O65(A) (io), 67 VDD (power), 68 VCC (power), 69 I/O63(A) (io), 70 I/O61(A) (io), 71 I/O59(A) (io), 72 I/O57(A) (io), 73 I/O55(A) (io), 74 M2 (in), 75 M1 (in), 76 I/O54(A) (io), 77 I/O52(A) (io), 78 I/O50(A) (io), 79 I/O48(A) (io), 80 I/O46(A) (io), 81 I/O44(A) (io), 82 GND (power), 83 I/O42(A) (io), 84 I/O41(A)/A16 (io)

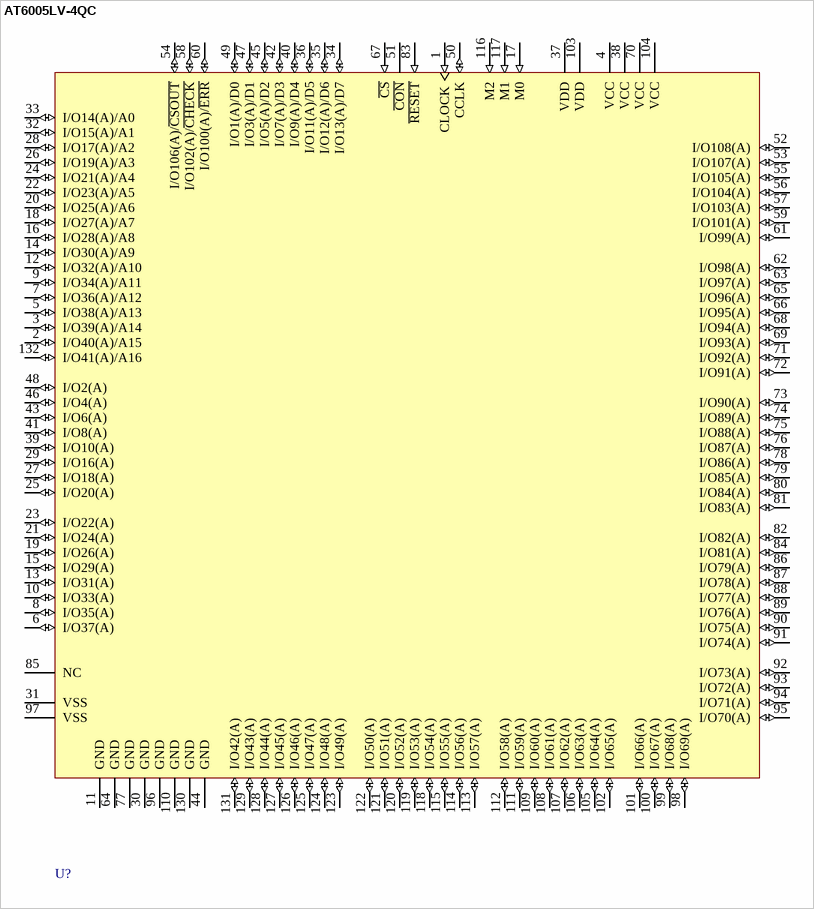
[diagram p30: symbol AT6005LV-4QC]

## AT6005LV-4QC
designator U?
AT6005 3.3V FPGA, 108 User I/O Pins, 132-Lead BQFP, Speed Grade 4, Commercial Grade; Published: 17-Dec-2003; DatasheetVersion: Rev. 0264F-10/99; PackageVersion: rev.0555D, Nov-1999; PackageReference: 132Q; Publisher: Altium Limited; PackageDescription: Bumpered PQFP; 132 Leads; Pitch 0.635 mm;; ComponentLink1Description: Manufacturer Link; ComponentLink1URL: http://www.atmel.com/products/FPGA/; ComponentLink2Description: Datasheet; ComponentLink2URL: http://www.atmel.com/dyn/resources/prod_documents/DOC0264.PDF
footprint 132Q (Bumpered PQFP; 132 Leads; Pitch 0.635 mm;)
pins: 1 CLOCK (in), 2 I/O40(A)/A15 (io), 3 I/O39(A)/A14 (io), 4 VCC (power), 5 I/O38(A)/A13 (io), 6 I/O37(A) (io), 7 I/O36(A)/A12 (io), 8 I/O35(A) (io), 9 I/O34(A)/A11 (io), 10 I/O33(A) (io), 11 GND (power), 12 I/O32(A)/A10 (io), 13 I/O31(A) (io), 14 I/O30(A)/A9 (io), 15 I/O29(A) (io), 16 I/O28(A)/A8 (io), 17 M0 (in), 18 I/O27(A)/A7 (io), 19 I/O26(A) (io), 20 I/O25(A)/A6 (io), 21 I/O24(A) (io), 22 I/O23(A)/A5 (io), 23 I/O22(A) (io), 24 I/O21(A)/A4 (io), 25 I/O20(A) (io), 26 I/O19(A)/A3 (io), 27 I/O18(A) (io), 28 I/O17(A)/A2 (io), 29 I/O16(A) (io), 30 GND (power), 31 VSS (power), 32 I/O15(A)/A1 (io), 33 I/O14(A)/A0 (io), 34 I/O13(A)/D7 (io), 35 I/O12(A)/D6 (io), 36 I/O11(A)/D5 (io), 37 VDD (power), 38 VCC (power), 39 I/O10(A) (io), 40 I/O9(A)/D4 (io), 41 I/O8(A) (io), 42 I/O7(A)/D3 (io), 43 I/O6(A) (io), 44 GND (power), 45 I/O5(A)/D2 (io), 46 I/O4(A) (io), 47 I/O3(A)/D1 (io), 48 I/O2(A) (io), 49 I/O1(A)/D0 (io), 50 CCLK (io), 51 ~{CON} (oc), 52 I/O108(A) (io), 53 I/O107(A) (io), 54 I/O106(A)/~{CSOUT} (io), 55 I/O105(A) (io), 56 I/O104(A) (io), 57 I/O103(A) (io), 58 I/O102(A)/~{CHECK} (io), 59 I/O101(A) (io), 60 I/O100(A)/~{ERR} (io), 61 I/O99(A) (io), 62 I/O98(A) (io), 63 I/O97(A) (io), 64 GND (power), 65 I/O96(A) (io), 66 I/O95(A) (io), 67 ~{CS} (in), 68 I/O94(A) (io), 69 I/O93(A) (io), 70 VCC (power), 71 I/O92(A) (io), 72 I/O91(A) (io), 73 I/O90(A) (io), 74 I/O89(A) (io), 75 I/O88(A) (io), 76 I/O87(A) (io), 77 GND (power), 78 I/O86(A) (io), 79 I/O85(A) (io), 80 I/O84(A) (io), 81 I/O83(A) (io), 82 I/O82(A) (io), 83 ~{RESET} (in), 84 I/O81(A) (io), 85 NC, 86 I/O79(A) (io), 87 I/O78(A) (io), 88 I/O77(A) (io), 89 I/O76(A) (io), 90 I/O75(A) (io), 91 I/O74(A) (io), 92 I/O73(A) (io), 93 I/O72(A) (io), 94 I/O71(A) (io), 95 I/O70(A) (io), 96 GND (power), 97 VSS (power), 98 I/O69(A) (io), 99 I/O68(A) (io), 100 I/O67(A) (io), 101 I/O66(A) (io), 102 I/O65(A) (io), 103 VDD (power), 104 VCC (power), 105 I/O64(A) (io), 106 I/O63(A) (io), 107 I/O62(A) (io), 108 I/O61(A) (io), 109 I/O60(A) (io), 110 GND (power), 111 I/O59(A) (io), 112 I/O58(A) (io), 113 I/O57(A) (io), 114 I/O56(A) (io), 115 I/O55(A) (io), 116 M2 (in), 117 M1 (in), 118 I/O54(A) (io), 119 I/O53(A) (io), 120 I/O52(A) (io), 121 I/O51(A) (io), 122 I/O50(A) (io), 123 I/O49(A) (io), 124 I/O48(A) (io), 125 I/O47(A) (io), 126 I/O46(A) (io), 127 I/O45(A) (io), 128 I/O44(A) (io), 129 I/O43(A) (io), 130 GND (power), 131 I/O42(A) (io), 132 I/O41(A)/A16 (io)

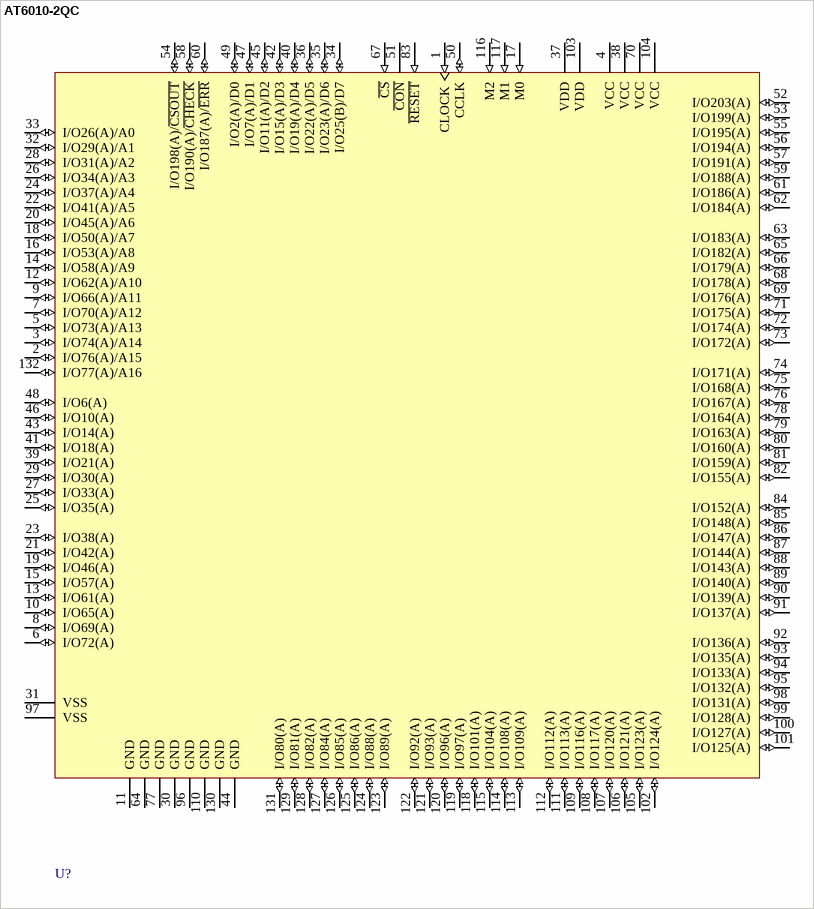
[diagram p31: symbol AT6010-2QC]

## AT6010-2QC
designator U?
AT6010 5.0V FPGA, 108 User I/O Pins, 132-Lead BQFP, Speed Grade 2, Commercial Grade; Published: 24-Nov-2000; LatestRevisionDate: 17-Dec-2003; LatestRevisionNote: Schematic layout rearranged; DatasheetVersion: Rev. 0264F-10/99; PackageVersion: rev.0555D, Nov-1999; PackageReference: 132Q; Publisher: Altium Limited; PackageDescription: Bumpered PQFP; 132 Leads; Pitch 0.635 mm;; ComponentLink1Description: Manufacturer Link; ComponentLink1URL: http://www.atmel.com/products/FPGA/; ComponentLink2Description: Datasheet; ComponentLink2URL: http://www.atmel.com/dyn/resources/prod_documents/DOC0264.PDF
footprint 132Q (Bumpered PQFP; 132 Leads; Pitch 0.635 mm;)
pins: 1 CLOCK (in), 2 I/O76(A)/A15 (io), 3 I/O74(A)/A14 (io), 4 VCC (power), 5 I/O73(A)/A13 (io), 6 I/O72(A) (io), 7 I/O70(A)/A12 (io), 8 I/O69(A) (io), 9 I/O66(A)/A11 (io), 10 I/O65(A) (io), 11 GND (power), 12 I/O62(A)/A10 (io), 13 I/O61(A) (io), 14 I/O58(A)/A9 (io), 15 I/O57(A) (io), 16 I/O53(A)/A8 (io), 17 M0 (in), 18 I/O50(A)/A7 (io), 19 I/O46(A) (io), 20 I/O45(A)/A6 (io), 21 I/O42(A) (io), 22 I/O41(A)/A5 (io), 23 I/O38(A) (io), 24 I/O37(A)/A4 (io), 25 I/O35(A) (io), 26 I/O34(A)/A3 (io), 27 I/O33(A) (io), 28 I/O31(A)/A2 (io), 29 I/O30(A) (io), 30 GND (power), 31 VSS (power), 32 I/O29(A)/A1 (io), 33 I/O26(A)/A0 (io), 34 I/O25(B)/D7 (io), 35 I/O23(A)/D6 (io), 36 I/O22(A)/D5 (io), 37 VDD (power), 38 VCC (power), 39 I/O21(A) (io), 40 I/O19(A)/D4 (io), 41 I/O18(A) (io), 42 I/O15(A)/D3 (io), 43 I/O14(A) (io), 44 GND (power), 45 I/O11(A)/D2 (io), 46 I/O10(A) (io), 47 I/O7(A)/D1 (io), 48 I/O6(A) (io), 49 I/O2(A)/D0 (io), 50 CCLK (io), 51 ~{CON} (oc), 52 I/O203(A) (io), 53 I/O199(A) (io), 54 I/O198(A)/~{CSOUT} (io), 55 I/O195(A) (io), 56 I/O194(A) (io), 57 I/O191(A) (io), 58 I/O190(A)/~{CHECK} (io), 59 I/O188(A) (io), 60 I/O187(A)/~{ERR} (io), 61 I/O186(A) (io), 62 I/O184(A) (io), 63 I/O183(A) (io), 64 GND (power), 65 I/O182(A) (io), 66 I/O179(A) (io), 67 ~{CS} (in), 68 I/O178(A) (io), 69 I/O176(A) (io), 70 VCC (power), 71 I/O175(A) (io), 72 I/O174(A) (io), 73 I/O172(A) (io), 74 I/O171(A) (io), 75 I/O168(A) (io), 76 I/O167(A) (io), 77 GND (power), 78 I/O164(A) (io), 79 I/O163(A) (io), 80 I/O160(A) (io), 81 I/O159(A) (io), 82 I/O155(A) (io), 83 ~{RESET} (in), 84 I/O152(A) (io), 85 I/O148(A) (io), 86 I/O147(A) (io), 87 I/O144(A) (io), 88 I/O143(A) (io), 89 I/O140(A) (io), 90 I/O139(A) (io), 91 I/O137(A) (io), 92 I/O136(A) (io), 93 I/O135(A) (io), 94 I/O133(A) (io), 95 I/O132(A) (io), 96 GND (power), 97 VSS (power), 98 I/O131(A) (io), 99 I/O128(A) (io), 100 I/O127(A) (io), 101 I/O125(A) (io), 102 I/O124(A) (io), 103 VDD (power), 104 VCC (power), 105 I/O123(A) (io), 106 I/O121(A) (io), 107 I/O120(A) (io), 108 I/O117(A) (io), 109 I/O116(A) (io), 110 GND (power), 111 I/O113(A) (io), 112 I/O112(A) (io), 113 I/O109(A) (io), 114 I/O108(A) (io), 115 I/O104(A) (io), 116 M2 (in), 117 M1 (in), 118 I/O101(A) (io), 119 I/O97(A) (io), 120 I/O96(A) (io), 121 I/O93(A) (io), 122 I/O92(A) (io), 123 I/O89(A) (io), 124 I/O88(A) (io), 125 I/O86(A) (io), 126 I/O85(A) (io), 127 I/O84(A) (io), 128 I/O82(A) (io), 129 I/O81(A) (io), 130 GND (power), 131 I/O80(A) (io), 132 I/O77(A)/A16 (io)

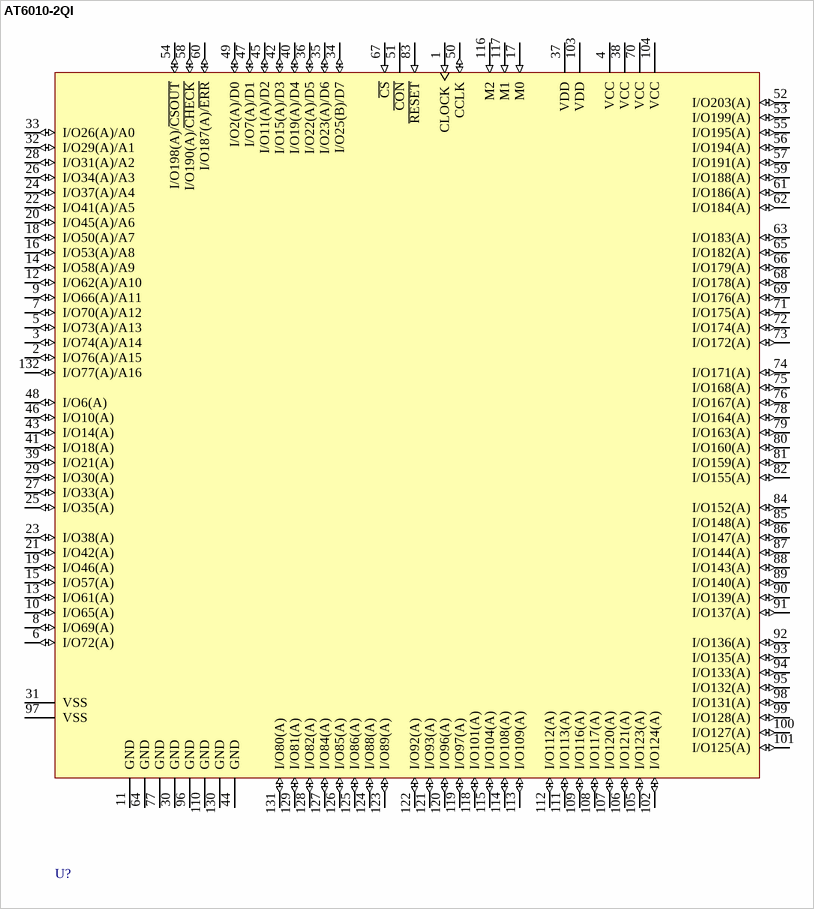
[diagram p32: symbol AT6010-2QI]

## AT6010-2QI
designator U?
AT6010 5.0V FPGA, 108 User I/O Pins, 132-Lead BQFP, Speed Grade 2, Industrial Grade; Published: 17-Dec-2003; DatasheetVersion: Rev. 0264F-10/99; PackageVersion: rev.0555D, Nov-1999; PackageReference: 132Q; Publisher: Altium Limited; PackageDescription: Bumpered PQFP; 132 Leads; Pitch 0.635 mm;; ComponentLink1Description: Manufacturer Link; ComponentLink1URL: http://www.atmel.com/products/FPGA/; ComponentLink2Description: Datasheet; ComponentLink2URL: http://www.atmel.com/dyn/resources/prod_documents/DOC0264.PDF
footprint 132Q (Bumpered PQFP; 132 Leads; Pitch 0.635 mm;)
pins: 1 CLOCK (in), 2 I/O76(A)/A15 (io), 3 I/O74(A)/A14 (io), 4 VCC (power), 5 I/O73(A)/A13 (io), 6 I/O72(A) (io), 7 I/O70(A)/A12 (io), 8 I/O69(A) (io), 9 I/O66(A)/A11 (io), 10 I/O65(A) (io), 11 GND (power), 12 I/O62(A)/A10 (io), 13 I/O61(A) (io), 14 I/O58(A)/A9 (io), 15 I/O57(A) (io), 16 I/O53(A)/A8 (io), 17 M0 (in), 18 I/O50(A)/A7 (io), 19 I/O46(A) (io), 20 I/O45(A)/A6 (io), 21 I/O42(A) (io), 22 I/O41(A)/A5 (io), 23 I/O38(A) (io), 24 I/O37(A)/A4 (io), 25 I/O35(A) (io), 26 I/O34(A)/A3 (io), 27 I/O33(A) (io), 28 I/O31(A)/A2 (io), 29 I/O30(A) (io), 30 GND (power), 31 VSS (power), 32 I/O29(A)/A1 (io), 33 I/O26(A)/A0 (io), 34 I/O25(B)/D7 (io), 35 I/O23(A)/D6 (io), 36 I/O22(A)/D5 (io), 37 VDD (power), 38 VCC (power), 39 I/O21(A) (io), 40 I/O19(A)/D4 (io), 41 I/O18(A) (io), 42 I/O15(A)/D3 (io), 43 I/O14(A) (io), 44 GND (power), 45 I/O11(A)/D2 (io), 46 I/O10(A) (io), 47 I/O7(A)/D1 (io), 48 I/O6(A) (io), 49 I/O2(A)/D0 (io), 50 CCLK (io), 51 ~{CON} (oc), 52 I/O203(A) (io), 53 I/O199(A) (io), 54 I/O198(A)/~{CSOUT} (io), 55 I/O195(A) (io), 56 I/O194(A) (io), 57 I/O191(A) (io), 58 I/O190(A)/~{CHECK} (io), 59 I/O188(A) (io), 60 I/O187(A)/~{ERR} (io), 61 I/O186(A) (io), 62 I/O184(A) (io), 63 I/O183(A) (io), 64 GND (power), 65 I/O182(A) (io), 66 I/O179(A) (io), 67 ~{CS} (in), 68 I/O178(A) (io), 69 I/O176(A) (io), 70 VCC (power), 71 I/O175(A) (io), 72 I/O174(A) (io), 73 I/O172(A) (io), 74 I/O171(A) (io), 75 I/O168(A) (io), 76 I/O167(A) (io), 77 GND (power), 78 I/O164(A) (io), 79 I/O163(A) (io), 80 I/O160(A) (io), 81 I/O159(A) (io), 82 I/O155(A) (io), 83 ~{RESET} (in), 84 I/O152(A) (io), 85 I/O148(A) (io), 86 I/O147(A) (io), 87 I/O144(A) (io), 88 I/O143(A) (io), 89 I/O140(A) (io), 90 I/O139(A) (io), 91 I/O137(A) (io), 92 I/O136(A) (io), 93 I/O135(A) (io), 94 I/O133(A) (io), 95 I/O132(A) (io), 96 GND (power), 97 VSS (power), 98 I/O131(A) (io), 99 I/O128(A) (io), 100 I/O127(A) (io), 101 I/O125(A) (io), 102 I/O124(A) (io), 103 VDD (power), 104 VCC (power), 105 I/O123(A) (io), 106 I/O121(A) (io), 107 I/O120(A) (io), 108 I/O117(A) (io), 109 I/O116(A) (io), 110 GND (power), 111 I/O113(A) (io), 112 I/O112(A) (io), 113 I/O109(A) (io), 114 I/O108(A) (io), 115 I/O104(A) (io), 116 M2 (in), 117 M1 (in), 118 I/O101(A) (io), 119 I/O97(A) (io), 120 I/O96(A) (io), 121 I/O93(A) (io), 122 I/O92(A) (io), 123 I/O89(A) (io), 124 I/O88(A) (io), 125 I/O86(A) (io), 126 I/O85(A) (io), 127 I/O84(A) (io), 128 I/O82(A) (io), 129 I/O81(A) (io), 130 GND (power), 131 I/O80(A) (io), 132 I/O77(A)/A16 (io)

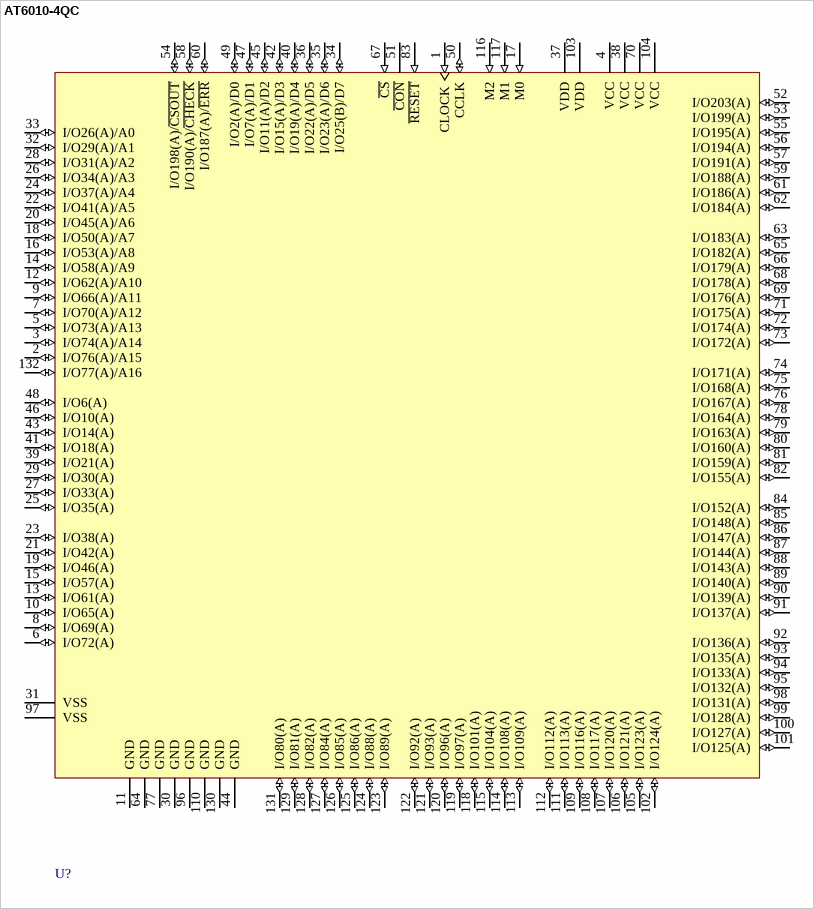
[diagram p33: symbol AT6010-4QC]

## AT6010-4QC
designator U?
AT6010 5.0V FPGA, 108 User I/O Pins, 132-Lead BQFP, Speed Grade 4, Commercial Grade; Published: 24-Nov-2000; LatestRevisionDate: 17-Dec-2003; LatestRevisionNote: Schematic layout rearranged; DatasheetVersion: Rev. 0264F-10/99; PackageVersion: rev.0555D, Nov-1999; PackageReference: 132Q; Publisher: Altium Limited; PackageDescription: Bumpered PQFP; 132 Leads; Pitch 0.635 mm;; ComponentLink1Description: Manufacturer Link; ComponentLink1URL: http://www.atmel.com/products/FPGA/; ComponentLink2Description: Datasheet; ComponentLink2URL: http://www.atmel.com/dyn/resources/prod_documents/DOC0264.PDF
footprint 132Q (Bumpered PQFP; 132 Leads; Pitch 0.635 mm;)
pins: 1 CLOCK (in), 2 I/O76(A)/A15 (io), 3 I/O74(A)/A14 (io), 4 VCC (power), 5 I/O73(A)/A13 (io), 6 I/O72(A) (io), 7 I/O70(A)/A12 (io), 8 I/O69(A) (io), 9 I/O66(A)/A11 (io), 10 I/O65(A) (io), 11 GND (power), 12 I/O62(A)/A10 (io), 13 I/O61(A) (io), 14 I/O58(A)/A9 (io), 15 I/O57(A) (io), 16 I/O53(A)/A8 (io), 17 M0 (in), 18 I/O50(A)/A7 (io), 19 I/O46(A) (io), 20 I/O45(A)/A6 (io), 21 I/O42(A) (io), 22 I/O41(A)/A5 (io), 23 I/O38(A) (io), 24 I/O37(A)/A4 (io), 25 I/O35(A) (io), 26 I/O34(A)/A3 (io), 27 I/O33(A) (io), 28 I/O31(A)/A2 (io), 29 I/O30(A) (io), 30 GND (power), 31 VSS (power), 32 I/O29(A)/A1 (io), 33 I/O26(A)/A0 (io), 34 I/O25(B)/D7 (io), 35 I/O23(A)/D6 (io), 36 I/O22(A)/D5 (io), 37 VDD (power), 38 VCC (power), 39 I/O21(A) (io), 40 I/O19(A)/D4 (io), 41 I/O18(A) (io), 42 I/O15(A)/D3 (io), 43 I/O14(A) (io), 44 GND (power), 45 I/O11(A)/D2 (io), 46 I/O10(A) (io), 47 I/O7(A)/D1 (io), 48 I/O6(A) (io), 49 I/O2(A)/D0 (io), 50 CCLK (io), 51 ~{CON} (oc), 52 I/O203(A) (io), 53 I/O199(A) (io), 54 I/O198(A)/~{CSOUT} (io), 55 I/O195(A) (io), 56 I/O194(A) (io), 57 I/O191(A) (io), 58 I/O190(A)/~{CHECK} (io), 59 I/O188(A) (io), 60 I/O187(A)/~{ERR} (io), 61 I/O186(A) (io), 62 I/O184(A) (io), 63 I/O183(A) (io), 64 GND (power), 65 I/O182(A) (io), 66 I/O179(A) (io), 67 ~{CS} (in), 68 I/O178(A) (io), 69 I/O176(A) (io), 70 VCC (power), 71 I/O175(A) (io), 72 I/O174(A) (io), 73 I/O172(A) (io), 74 I/O171(A) (io), 75 I/O168(A) (io), 76 I/O167(A) (io), 77 GND (power), 78 I/O164(A) (io), 79 I/O163(A) (io), 80 I/O160(A) (io), 81 I/O159(A) (io), 82 I/O155(A) (io), 83 ~{RESET} (in), 84 I/O152(A) (io), 85 I/O148(A) (io), 86 I/O147(A) (io), 87 I/O144(A) (io), 88 I/O143(A) (io), 89 I/O140(A) (io), 90 I/O139(A) (io), 91 I/O137(A) (io), 92 I/O136(A) (io), 93 I/O135(A) (io), 94 I/O133(A) (io), 95 I/O132(A) (io), 96 GND (power), 97 VSS (power), 98 I/O131(A) (io), 99 I/O128(A) (io), 100 I/O127(A) (io), 101 I/O125(A) (io), 102 I/O124(A) (io), 103 VDD (power), 104 VCC (power), 105 I/O123(A) (io), 106 I/O121(A) (io), 107 I/O120(A) (io), 108 I/O117(A) (io), 109 I/O116(A) (io), 110 GND (power), 111 I/O113(A) (io), 112 I/O112(A) (io), 113 I/O109(A) (io), 114 I/O108(A) (io), 115 I/O104(A) (io), 116 M2 (in), 117 M1 (in), 118 I/O101(A) (io), 119 I/O97(A) (io), 120 I/O96(A) (io), 121 I/O93(A) (io), 122 I/O92(A) (io), 123 I/O89(A) (io), 124 I/O88(A) (io), 125 I/O86(A) (io), 126 I/O85(A) (io), 127 I/O84(A) (io), 128 I/O82(A) (io), 129 I/O81(A) (io), 130 GND (power), 131 I/O80(A) (io), 132 I/O77(A)/A16 (io)

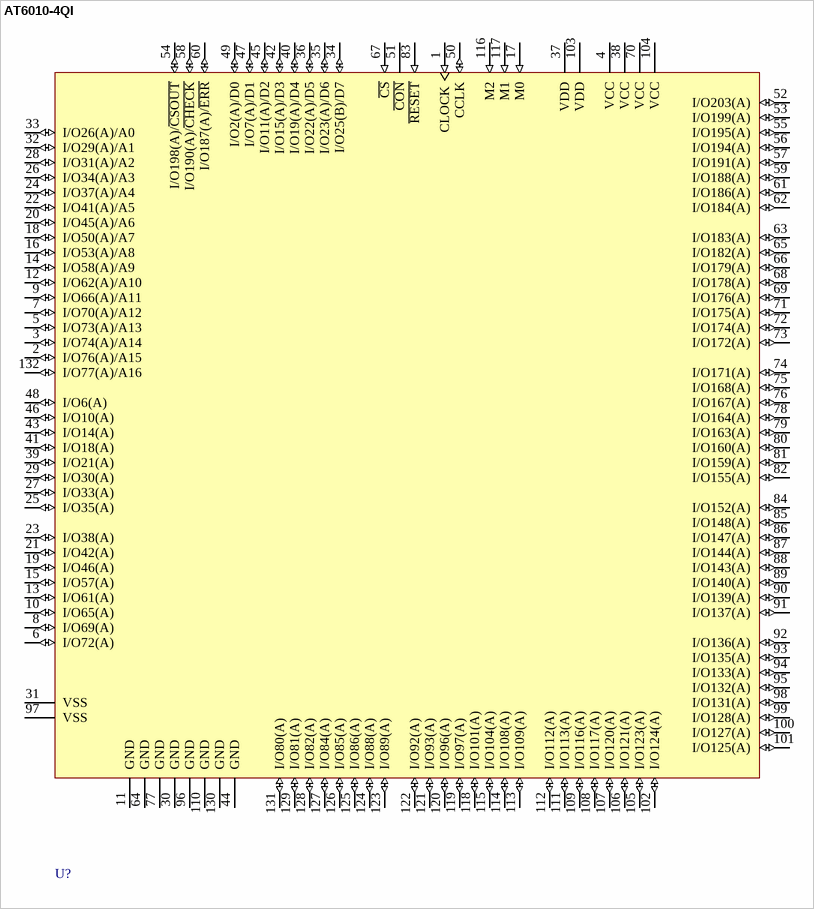
[diagram p34: symbol AT6010-4QI]

## AT6010-4QI
designator U?
AT6010 5.0V FPGA, 108 User I/O Pins, 132-Lead BQFP, Speed Grade 4, Industrial Grade; Published: 24-Nov-2000; LatestRevisionDate: 17-Dec-2003; LatestRevisionNote: Schematic layout rearranged; DatasheetVersion: Rev. 0264F-10/99; PackageVersion: rev.0555D, Nov-1999; PackageReference: 132Q; Publisher: Altium Limited; PackageDescription: Bumpered PQFP; 132 Leads; Pitch 0.635 mm;; ComponentLink1Description: Manufacturer Link; ComponentLink1URL: http://www.atmel.com/products/FPGA/; ComponentLink2Description: Datasheet; ComponentLink2URL: http://www.atmel.com/dyn/resources/prod_documents/DOC0264.PDF
footprint 132Q (Bumpered PQFP; 132 Leads; Pitch 0.635 mm;)
pins: 1 CLOCK (in), 2 I/O76(A)/A15 (io), 3 I/O74(A)/A14 (io), 4 VCC (power), 5 I/O73(A)/A13 (io), 6 I/O72(A) (io), 7 I/O70(A)/A12 (io), 8 I/O69(A) (io), 9 I/O66(A)/A11 (io), 10 I/O65(A) (io), 11 GND (power), 12 I/O62(A)/A10 (io), 13 I/O61(A) (io), 14 I/O58(A)/A9 (io), 15 I/O57(A) (io), 16 I/O53(A)/A8 (io), 17 M0 (in), 18 I/O50(A)/A7 (io), 19 I/O46(A) (io), 20 I/O45(A)/A6 (io), 21 I/O42(A) (io), 22 I/O41(A)/A5 (io), 23 I/O38(A) (io), 24 I/O37(A)/A4 (io), 25 I/O35(A) (io), 26 I/O34(A)/A3 (io), 27 I/O33(A) (io), 28 I/O31(A)/A2 (io), 29 I/O30(A) (io), 30 GND (power), 31 VSS (power), 32 I/O29(A)/A1 (io), 33 I/O26(A)/A0 (io), 34 I/O25(B)/D7 (io), 35 I/O23(A)/D6 (io), 36 I/O22(A)/D5 (io), 37 VDD (power), 38 VCC (power), 39 I/O21(A) (io), 40 I/O19(A)/D4 (io), 41 I/O18(A) (io), 42 I/O15(A)/D3 (io), 43 I/O14(A) (io), 44 GND (power), 45 I/O11(A)/D2 (io), 46 I/O10(A) (io), 47 I/O7(A)/D1 (io), 48 I/O6(A) (io), 49 I/O2(A)/D0 (io), 50 CCLK (io), 51 ~{CON} (oc), 52 I/O203(A) (io), 53 I/O199(A) (io), 54 I/O198(A)/~{CSOUT} (io), 55 I/O195(A) (io), 56 I/O194(A) (io), 57 I/O191(A) (io), 58 I/O190(A)/~{CHECK} (io), 59 I/O188(A) (io), 60 I/O187(A)/~{ERR} (io), 61 I/O186(A) (io), 62 I/O184(A) (io), 63 I/O183(A) (io), 64 GND (power), 65 I/O182(A) (io), 66 I/O179(A) (io), 67 ~{CS} (in), 68 I/O178(A) (io), 69 I/O176(A) (io), 70 VCC (power), 71 I/O175(A) (io), 72 I/O174(A) (io), 73 I/O172(A) (io), 74 I/O171(A) (io), 75 I/O168(A) (io), 76 I/O167(A) (io), 77 GND (power), 78 I/O164(A) (io), 79 I/O163(A) (io), 80 I/O160(A) (io), 81 I/O159(A) (io), 82 I/O155(A) (io), 83 ~{RESET} (in), 84 I/O152(A) (io), 85 I/O148(A) (io), 86 I/O147(A) (io), 87 I/O144(A) (io), 88 I/O143(A) (io), 89 I/O140(A) (io), 90 I/O139(A) (io), 91 I/O137(A) (io), 92 I/O136(A) (io), 93 I/O135(A) (io), 94 I/O133(A) (io), 95 I/O132(A) (io), 96 GND (power), 97 VSS (power), 98 I/O131(A) (io), 99 I/O128(A) (io), 100 I/O127(A) (io), 101 I/O125(A) (io), 102 I/O124(A) (io), 103 VDD (power), 104 VCC (power), 105 I/O123(A) (io), 106 I/O121(A) (io), 107 I/O120(A) (io), 108 I/O117(A) (io), 109 I/O116(A) (io), 110 GND (power), 111 I/O113(A) (io), 112 I/O112(A) (io), 113 I/O109(A) (io), 114 I/O108(A) (io), 115 I/O104(A) (io), 116 M2 (in), 117 M1 (in), 118 I/O101(A) (io), 119 I/O97(A) (io), 120 I/O96(A) (io), 121 I/O93(A) (io), 122 I/O92(A) (io), 123 I/O89(A) (io), 124 I/O88(A) (io), 125 I/O86(A) (io), 126 I/O85(A) (io), 127 I/O84(A) (io), 128 I/O82(A) (io), 129 I/O81(A) (io), 130 GND (power), 131 I/O80(A) (io), 132 I/O77(A)/A16 (io)

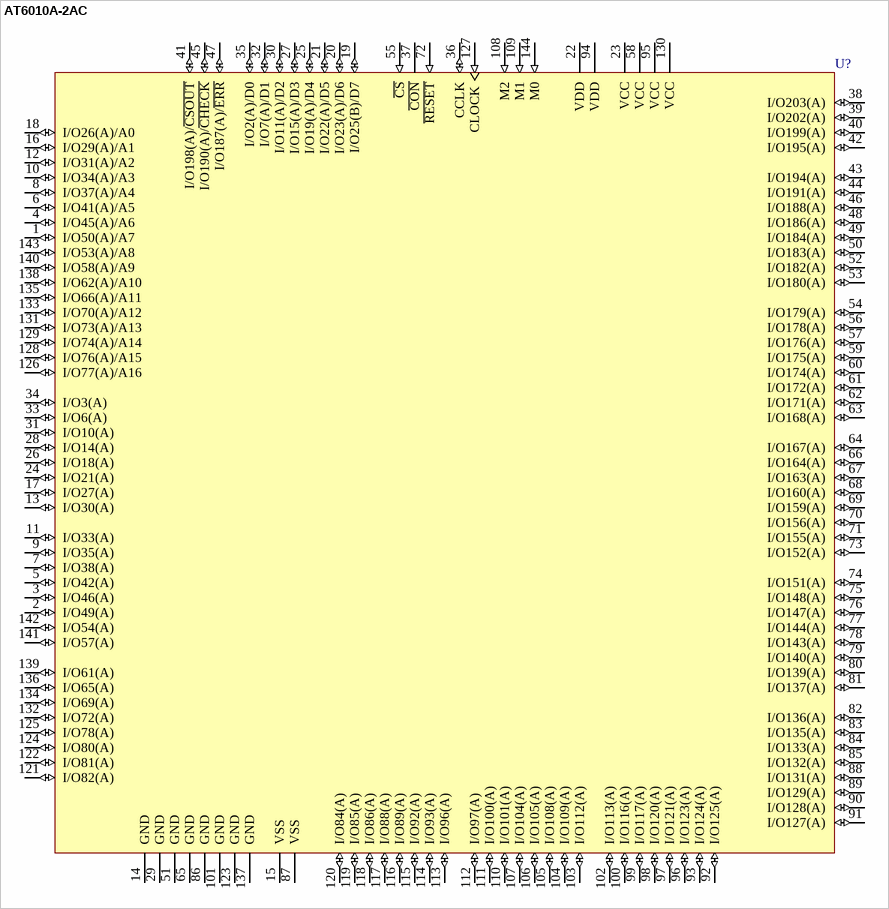
[diagram p35: symbol AT6010A-2AC]